# Altium integrated library Actel RTSX-S.IntLib: 22 symbols (part 1 of 3)
Pins are listed as number, name and electrical type; pins without a type are passive.

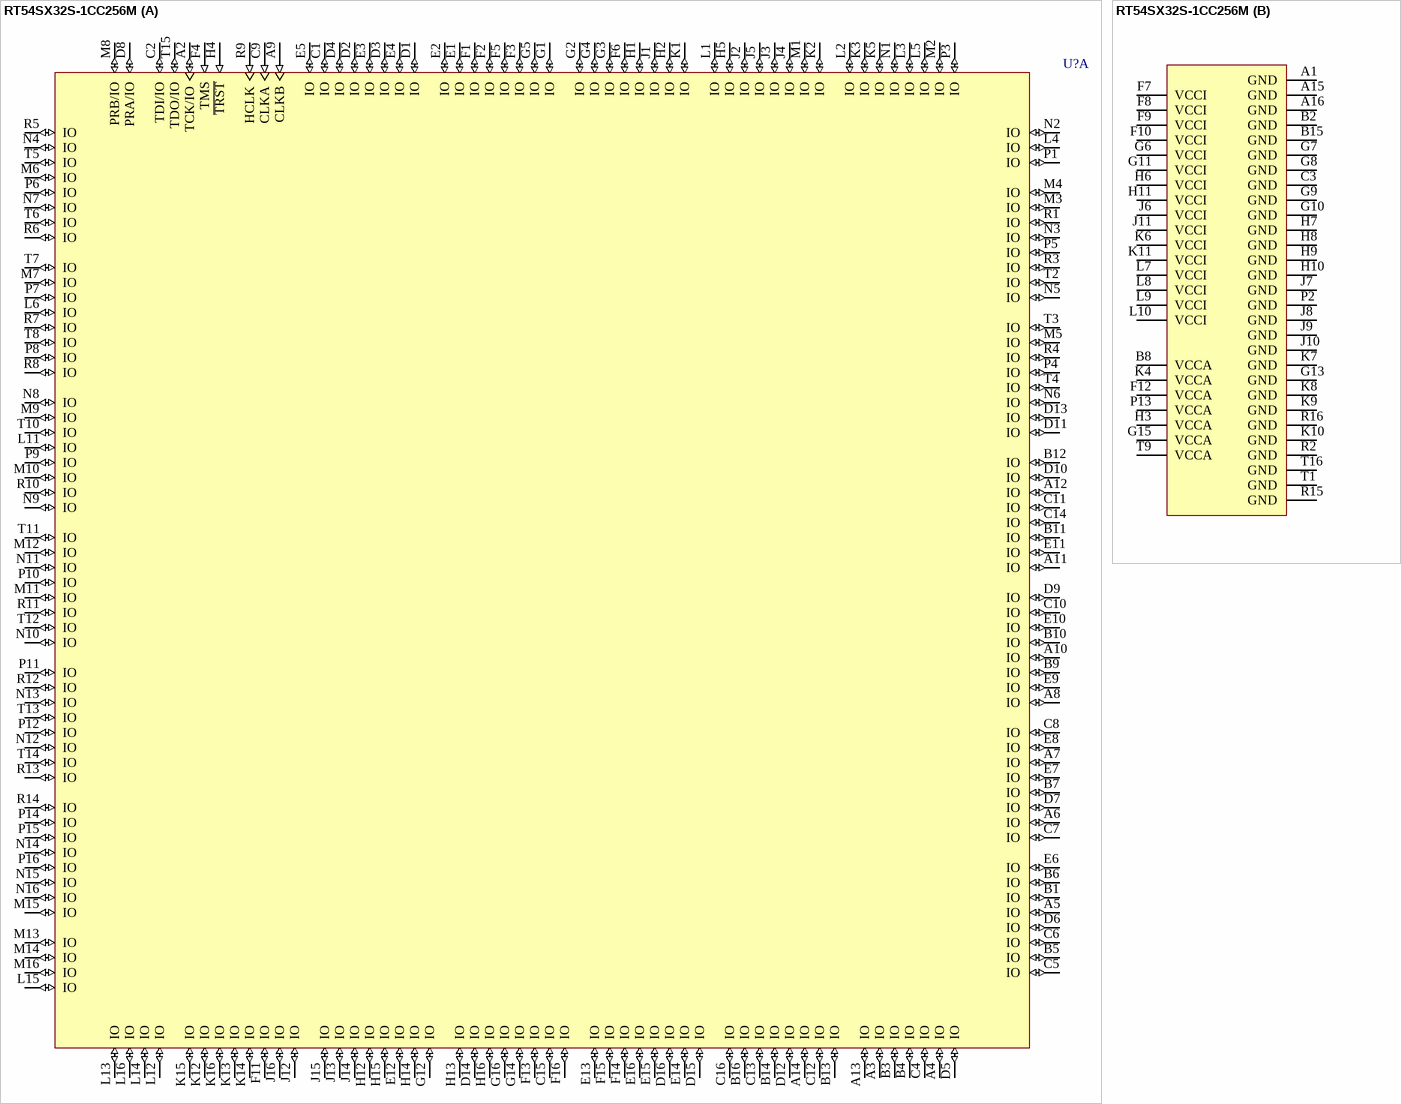
[diagram p0: symbol RT54SX32S-1CC256M]

## RT54SX32S-1CC256M
designator U?
RT54SX32S RadTolerant FPGA, 202 User IOs, 256-Pin CCLG, Speed Grade 1, Military Temperature; Component Availability: Discontinued; Published: 8-Jul-2005; LatestRevisionDate: 13-Apr-2006; LatestRevisionNote: IPC-7351 Footprint Added.; DatasheetVersion: v2.2, Nov-2004; PackageVersion: ver11.2, Nov-2009; PackageReference: CC256; Publisher: Altium Limited; PackageDescription: 256-Ball (Ceramic Chip Carrier Land Grid Substrate) Ball Grid Array 1 mm Pitch; Code_IPC: BGA100P16X16-256; ComponentLink1Description: RTSX-S RadTolerant Datasheet; ComponentLink1URL: http://www.actel.com/documents/RT54SXS_DS.pdf; ComponentLink2Description: Package Mechanical Drawings; ComponentLink2URL: http://www.actel.com/documents/PckgMechDrwngs.pdf; ComponentLink3Description: RTSX-S Discontinued Documents; ComponentLink3URL: http://www.actel.com/products/discontinued/default.aspx#rtsxs; ComponentLink4Description: Actel.com Home; ComponentLink4URL: http://www.actel.com/
footprint CC256 (BGA, 256-Leads, Body 17x17mm, Pitch 1mm)
part A pins: A2 TCK/IO (io), A3 IO (io), A4 IO (io), A5 IO (io), A6 IO (io), A7 IO (io), A8 IO (io), A9 CLKB (in), A10 IO (io), A11 IO (io), A12 IO (io), A13 IO (io), A14 IO (io), B1 IO (io), B3 IO (io), B4 IO (io), B5 IO (io), B6 IO (io), B7 IO (io), B9 IO (io), B10 IO (io), B11 IO (io), B12 IO (io), B13 IO (io), B14 IO (io), B16 IO (io), C1 IO (io), C2 TDI/IO (io), C4 IO (io), C5 IO (io), C6 IO (io), C7 IO (io), C8 IO (io), C9 CLKA (in), C10 IO (io), C11 IO (io), C12 IO (io), C13 IO (io), C14 IO (io), C15 IO (io), C16 IO (io), D1 IO (io), D2 IO (io), D3 IO (io), D4 IO (io), D5 IO (io), D6 IO (io), D7 IO (io), D8 PRA/IO (io), D9 IO (io), D10 IO (io), D11 IO (io), D12 IO (io), D13 IO (io), D14 IO (io), D15 IO (io), D16 IO (io), E1 IO (io), E2 IO (io), E3 IO (io), E4 IO (io), E5 IO (io), E6 IO (io), E7 IO (io), E8 IO (io), E9 IO (io), E10 IO (io), E11 IO (io), E12 IO (io), E13 IO (io), E14 IO (io), E15 IO (io), E16 IO (io), F1 IO (io), F2 IO (io), F3 IO (io), F4 TMS (in), F5 IO (io), F6 IO (io), F11 IO (io), F13 IO (io), F14 IO (io), F15 IO (io), F16 IO (io), G1 IO (io), G2 IO (io), G3 IO (io), G4 IO (io), G5 IO (io), G12 IO (io), G14 IO (io), G16 IO (io), H1 IO (io), H2 IO (io), H4 ~{TRST} (in), H5 IO (io), H12 IO (io), H13 IO (io), H14 IO (io), H15 IO (io), H16 IO (io), J1 IO (io), J2 IO (io), J3 IO (io), J4 IO (io), J5 IO (io), J12 IO (io), J13 IO (io), J14 IO (io), J15 IO (io), J16 IO (io), K1 IO (io), K2 IO (io), K3 IO (io), K5 IO (io), K12 IO (io), K13 IO (io), K14 IO (io), K15 IO (io), K16 IO (io), L1 IO (io), L2 IO (io), L3 IO (io), L4 IO (io), L5 IO (io), L6 IO (io), L11 IO (io), L12 IO (io), L13 IO (io), L14 IO (io), L15 IO (io), L16 IO (io), M1 IO (io), M2 IO (io), M3 IO (io), M4 IO (io), M5 IO (io), M6 IO (io), M7 IO (io), M8 PRB/IO (io), M9 IO (io), M10 IO (io), M11 IO (io), M12 IO (io), M13 IO (io), M14 IO (io), M15 IO (io), M16 IO (io), N1 IO (io), N2 IO (io), N3 IO (io), N4 IO (io), N5 IO (io), N6 IO (io), N7 IO (io), N8 IO (io), N9 IO (io), N10 IO (io), N11 IO (io), N12 IO (io), N13 IO (io), N14 IO (io), N15 IO (io), N16 IO (io), P1 IO (io), P3 IO (io), P4 IO (io), P5 IO (io), P6 IO (io), P7 IO (io), P8 IO (io), P9 IO (io), P10 IO (io), P11 IO (io), P12 IO (io), P14 IO (io), P15 IO (io), P16 IO (io), R1 IO (io), R3 IO (io), R4 IO (io), R5 IO (io), R6 IO (io), R7 IO (io), R8 IO (io), R9 HCLK (in), R10 IO (io), R11 IO (io), R12 IO (io), R13 IO (io), R14 IO (io), T2 IO (io), T3 IO (io), T4 IO (io), T5 IO (io), T6 IO (io), T7 IO (io), T8 IO (io), T10 IO (io), T11 IO (io), T12 IO (io), T13 IO (io), T14 IO (io), T15 TDO/IO (io)
part B pins: A1 GND (power), A15 GND (power), A16 GND (power), B2 GND (power), B8 VCCA (power), B15 GND (power), C3 GND (power), F7 VCCI (power), F8 VCCI (power), F9 VCCI (power), F10 VCCI (power), F12 VCCA (power), G6 VCCI (power), G7 GND (power), G8 GND (power), G9 GND (power), G10 GND (power), G11 VCCI (power), G13 GND (power), G15 VCCA (power), H3 VCCA (power), H6 VCCI (power), H7 GND (power), H8 GND (power), H9 GND (power), H10 GND (power), H11 VCCI (power), J6 VCCI (power), J7 GND (power), J8 GND (power), J9 GND (power), J10 GND (power), J11 VCCI (power), K4 VCCA (power), K6 VCCI (power), K7 GND (power), K8 GND (power), K9 GND (power), K10 GND (power), K11 VCCI (power), L7 VCCI (power), L8 VCCI (power), L9 VCCI (power), L10 VCCI (power), P2 GND (power), P13 VCCA (power), R2 GND (power), R15 GND (power), R16 GND (power), T1 GND (power), T9 VCCA (power), T16 GND (power)

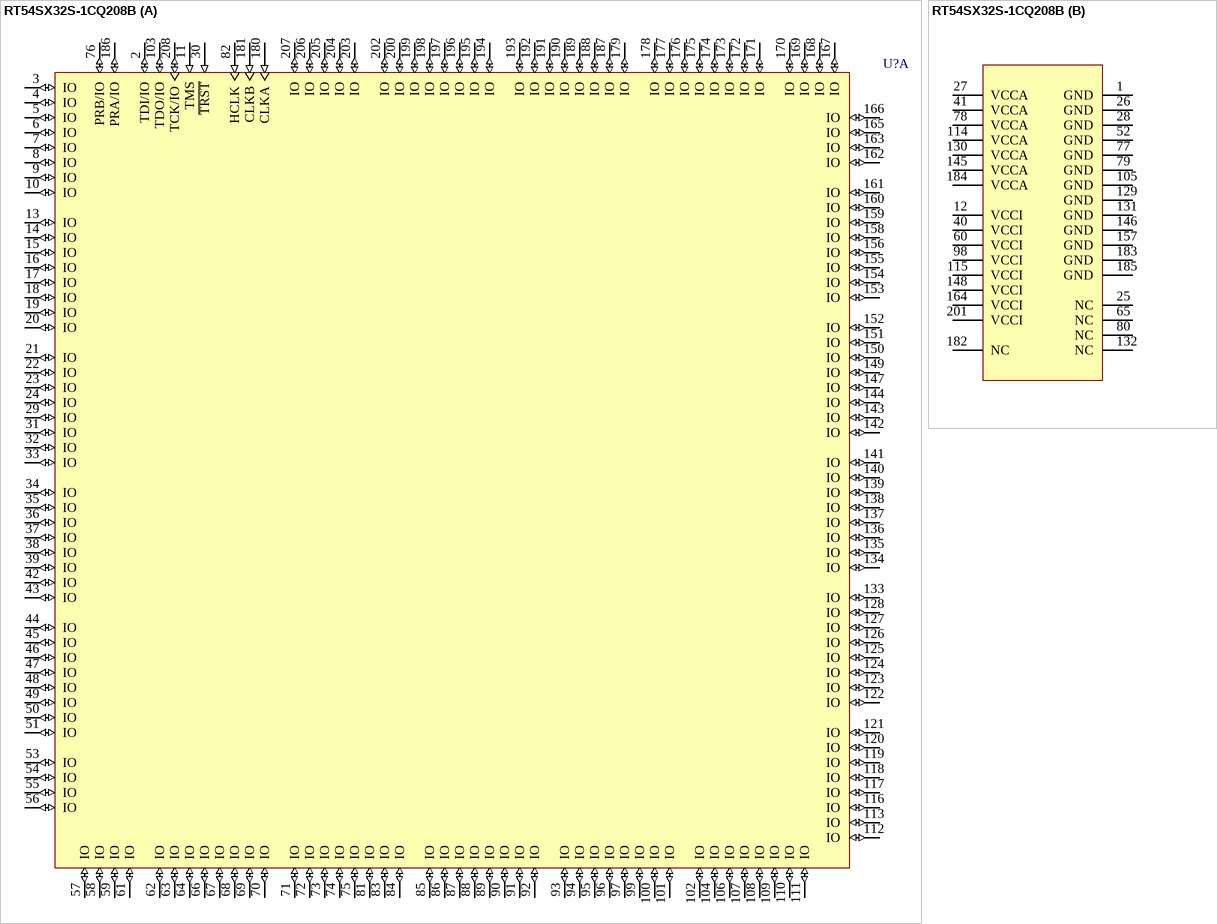
[diagram p1: symbol RT54SX32S-1CQ208B]

## RT54SX32S-1CQ208B
designator U?
RT54SX32S RadTolerant FPGA, 176 User IOs, 208-Pin CQFP, Speed Grade 1, MIL-STD-883 Class B; Component Availability: Discontinued; Published: 17-Sep-2003; LatestRevisionDate: 13-Apr-2006; LatestRevisionNote: IPC-7351 Footprint Added.; DatasheetVersion: v2.2, Nov-2004; PackageVersion: ver11.2, Nov-2009; PackageReference: CQ208; Publisher: Altium Limited; PackageDescription: 208-Pin Ceramic Quad Flat Pack (CQFP); ComponentLink1Description: RTSX-S RadTolerant Datasheet; ComponentLink1URL: http://www.actel.com/documents/RT54SXS_DS.pdf; ComponentLink2Description: Package Mechanical Drawings; ComponentLink2URL: http://www.actel.com/documents/PckgMechDrwngs.pdf; ComponentLink3Description: RTSX-S Discontinued Documents; ComponentLink3URL: http://www.actel.com/products/discontinued/default.aspx#rtsxs; ComponentLink4Description: Actel.com Home; ComponentLink4URL: http://www.actel.com/
footprint CQ208_N (CQFP, 208-Leads, Body 29x29mm; Pitch 0.5mm, Gullwing Leadform, IPC Medium Density)
footprint CQ208_L (CQFP, 208-Leads, Body 29x29mm; Pitch 0.5mm, Gullwing Leadform, IPC High Density)
footprint CQ208_M (CQFP, 208-Leads, Body 29x29mm; Pitch 0.5mm, Gullwing Leadform, IPC Low Density)
part A pins: 2 TDI/IO (io), 3 IO (io), 4 IO (io), 5 IO (io), 6 IO (io), 7 IO (io), 8 IO (io), 9 IO (io), 10 IO (io), 11 TMS (in), 13 IO (io), 14 IO (io), 15 IO (io), 16 IO (io), 17 IO (io), 18 IO (io), 19 IO (io), 20 IO (io), 21 IO (io), 22 IO (io), 23 IO (io), 24 IO (io), 29 IO (io), 30 ~{TRST} (in), 31 IO (io), 32 IO (io), 33 IO (io), 34 IO (io), 35 IO (io), 36 IO (io), 37 IO (io), 38 IO (io), 39 IO (io), 42 IO (io), 43 IO (io), 44 IO (io), 45 IO (io), 46 IO (io), 47 IO (io), 48 IO (io), 49 IO (io), 50 IO (io), 51 IO (io), 53 IO (io), 54 IO (io), 55 IO (io), 56 IO (io), 57 IO (io), 58 IO (io), 59 IO (io), 61 IO (io), 62 IO (io), 63 IO (io), 64 IO (io), 66 IO (io), 67 IO (io), 68 IO (io), 69 IO (io), 70 IO (io), 71 IO (io), 72 IO (io), 73 IO (io), 74 IO (io), 75 IO (io), 76 PRB/IO (io), 81 IO (io), 82 HCLK (in), 83 IO (io), 84 IO (io), 85 IO (io), 86 IO (io), 87 IO (io), 88 IO (io), 89 IO (io), 90 IO (io), 91 IO (io), 92 IO (io), 93 IO (io), 94 IO (io), 95 IO (io), 96 IO (io), 97 IO (io), 99 IO (io), 100 IO (io), 101 IO (io), 102 IO (io), 103 TDO/IO (io), 104 IO (io), 106 IO (io), 107 IO (io), 108 IO (io), 109 IO (io), 110 IO (io), 111 IO (io), 112 IO (io), 113 IO (io), 116 IO (io), 117 IO (io), 118 IO (io), 119 IO (io), 120 IO (io), 121 IO (io), 122 IO (io), 123 IO (io), 124 IO (io), 125 IO (io), 126 IO (io), 127 IO (io), 128 IO (io), 133 IO (io), 134 IO (io), 135 IO (io), 136 IO (io), 137 IO (io), 138 IO (io), 139 IO (io), 140 IO (io), 141 IO (io), 142 IO (io), 143 IO (io), 144 IO (io), 147 IO (io), 149 IO (io), 150 IO (io), 151 IO (io), 152 IO (io), 153 IO (io), 154 IO (io), 155 IO (io), 156 IO (io), 158 IO (io), 159 IO (io), 160 IO (io), 161 IO (io), 162 IO (io), 163 IO (io), 165 IO (io), 166 IO (io), 167 IO (io), 168 IO (io), 169 IO (io), 170 IO (io), 171 IO (io), 172 IO (io), 173 IO (io), 174 IO (io), 175 IO (io), 176 IO (io), 177 IO (io), 178 IO (io), 179 IO (io), 180 CLKA (in), 181 CLKB (in), 186 PRA/IO (io), 187 IO (io), 188 IO (io), 189 IO (io), 190 IO (io), 191 IO (io), 192 IO (io), 193 IO (io), 194 IO (io), 195 IO (io), 196 IO (io), 197 IO (io), 198 IO (io), 199 IO (io), 200 IO (io), 202 IO (io), 203 IO (io), 204 IO (io), 205 IO (io), 206 IO (io), 207 IO (io), 208 TCK/IO (io)
part B pins: 1 GND (power), 12 VCCI (power), 25 NC, 26 GND (power), 27 VCCA (power), 28 GND (power), 40 VCCI (power), 41 VCCA (power), 52 GND (power), 60 VCCI (power), 65 NC, 77 GND (power), 78 VCCA (power), 79 GND (power), 80 NC, 98 VCCI (power), 105 GND (power), 114 VCCA (power), 115 VCCI (power), 129 GND (power), 130 VCCA (power), 131 GND (power), 132 NC, 145 VCCA (power), 146 GND (power), 148 VCCI (power), 157 GND (power), 164 VCCI (power), 182 NC, 183 GND (power), 184 VCCA (power), 185 GND (power), 201 VCCI (power)

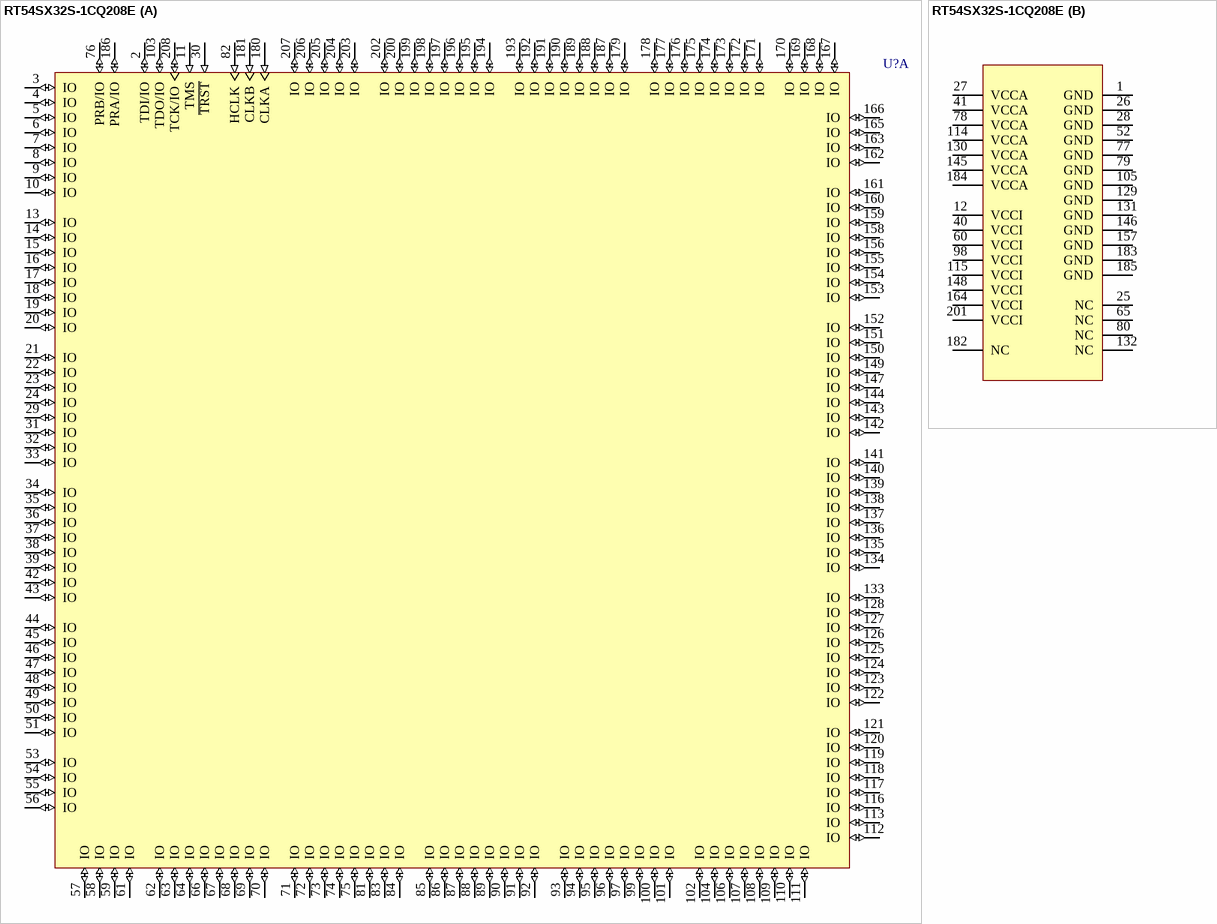
[diagram p2: symbol RT54SX32S-1CQ208E]

## RT54SX32S-1CQ208E
designator U?
RT54SX32S RadTolerant FPGA, 176 User IOs, 208-Pin CQFP, Speed Grade 1, E-Flow (Space Level Flow); Component Availability: Discontinued; Published: 17-Sep-2003; LatestRevisionDate: 13-Apr-2006; LatestRevisionNote: IPC-7351 Footprint Added.; DatasheetVersion: v2.2, Nov-2004; PackageVersion: ver11.2, Nov-2009; PackageReference: CQ208; Publisher: Altium Limited; PackageDescription: 208-Pin Ceramic Quad Flat Pack (CQFP); ComponentLink1Description: RTSX-S RadTolerant Datasheet; ComponentLink1URL: http://www.actel.com/documents/RT54SXS_DS.pdf; ComponentLink2Description: Package Mechanical Drawings; ComponentLink2URL: http://www.actel.com/documents/PckgMechDrwngs.pdf; ComponentLink3Description: RTSX-S Discontinued Documents; ComponentLink3URL: http://www.actel.com/products/discontinued/default.aspx#rtsxs; ComponentLink4Description: Actel.com Home; ComponentLink4URL: http://www.actel.com/
footprint CQ208_N (CQFP, 208-Leads, Body 29x29mm; Pitch 0.5mm, Gullwing Leadform, IPC Medium Density)
footprint CQ208_L (CQFP, 208-Leads, Body 29x29mm; Pitch 0.5mm, Gullwing Leadform, IPC High Density)
footprint CQ208_M (CQFP, 208-Leads, Body 29x29mm; Pitch 0.5mm, Gullwing Leadform, IPC Low Density)
part A pins: 2 TDI/IO (io), 3 IO (io), 4 IO (io), 5 IO (io), 6 IO (io), 7 IO (io), 8 IO (io), 9 IO (io), 10 IO (io), 11 TMS (in), 13 IO (io), 14 IO (io), 15 IO (io), 16 IO (io), 17 IO (io), 18 IO (io), 19 IO (io), 20 IO (io), 21 IO (io), 22 IO (io), 23 IO (io), 24 IO (io), 29 IO (io), 30 ~{TRST} (in), 31 IO (io), 32 IO (io), 33 IO (io), 34 IO (io), 35 IO (io), 36 IO (io), 37 IO (io), 38 IO (io), 39 IO (io), 42 IO (io), 43 IO (io), 44 IO (io), 45 IO (io), 46 IO (io), 47 IO (io), 48 IO (io), 49 IO (io), 50 IO (io), 51 IO (io), 53 IO (io), 54 IO (io), 55 IO (io), 56 IO (io), 57 IO (io), 58 IO (io), 59 IO (io), 61 IO (io), 62 IO (io), 63 IO (io), 64 IO (io), 66 IO (io), 67 IO (io), 68 IO (io), 69 IO (io), 70 IO (io), 71 IO (io), 72 IO (io), 73 IO (io), 74 IO (io), 75 IO (io), 76 PRB/IO (io), 81 IO (io), 82 HCLK (in), 83 IO (io), 84 IO (io), 85 IO (io), 86 IO (io), 87 IO (io), 88 IO (io), 89 IO (io), 90 IO (io), 91 IO (io), 92 IO (io), 93 IO (io), 94 IO (io), 95 IO (io), 96 IO (io), 97 IO (io), 99 IO (io), 100 IO (io), 101 IO (io), 102 IO (io), 103 TDO/IO (io), 104 IO (io), 106 IO (io), 107 IO (io), 108 IO (io), 109 IO (io), 110 IO (io), 111 IO (io), 112 IO (io), 113 IO (io), 116 IO (io), 117 IO (io), 118 IO (io), 119 IO (io), 120 IO (io), 121 IO (io), 122 IO (io), 123 IO (io), 124 IO (io), 125 IO (io), 126 IO (io), 127 IO (io), 128 IO (io), 133 IO (io), 134 IO (io), 135 IO (io), 136 IO (io), 137 IO (io), 138 IO (io), 139 IO (io), 140 IO (io), 141 IO (io), 142 IO (io), 143 IO (io), 144 IO (io), 147 IO (io), 149 IO (io), 150 IO (io), 151 IO (io), 152 IO (io), 153 IO (io), 154 IO (io), 155 IO (io), 156 IO (io), 158 IO (io), 159 IO (io), 160 IO (io), 161 IO (io), 162 IO (io), 163 IO (io), 165 IO (io), 166 IO (io), 167 IO (io), 168 IO (io), 169 IO (io), 170 IO (io), 171 IO (io), 172 IO (io), 173 IO (io), 174 IO (io), 175 IO (io), 176 IO (io), 177 IO (io), 178 IO (io), 179 IO (io), 180 CLKA (in), 181 CLKB (in), 186 PRA/IO (io), 187 IO (io), 188 IO (io), 189 IO (io), 190 IO (io), 191 IO (io), 192 IO (io), 193 IO (io), 194 IO (io), 195 IO (io), 196 IO (io), 197 IO (io), 198 IO (io), 199 IO (io), 200 IO (io), 202 IO (io), 203 IO (io), 204 IO (io), 205 IO (io), 206 IO (io), 207 IO (io), 208 TCK/IO (io)
part B pins: 1 GND (power), 12 VCCI (power), 25 NC, 26 GND (power), 27 VCCA (power), 28 GND (power), 40 VCCI (power), 41 VCCA (power), 52 GND (power), 60 VCCI (power), 65 NC, 77 GND (power), 78 VCCA (power), 79 GND (power), 80 NC, 98 VCCI (power), 105 GND (power), 114 VCCA (power), 115 VCCI (power), 129 GND (power), 130 VCCA (power), 131 GND (power), 132 NC, 145 VCCA (power), 146 GND (power), 148 VCCI (power), 157 GND (power), 164 VCCI (power), 182 NC, 183 GND (power), 184 VCCA (power), 185 GND (power), 201 VCCI (power)

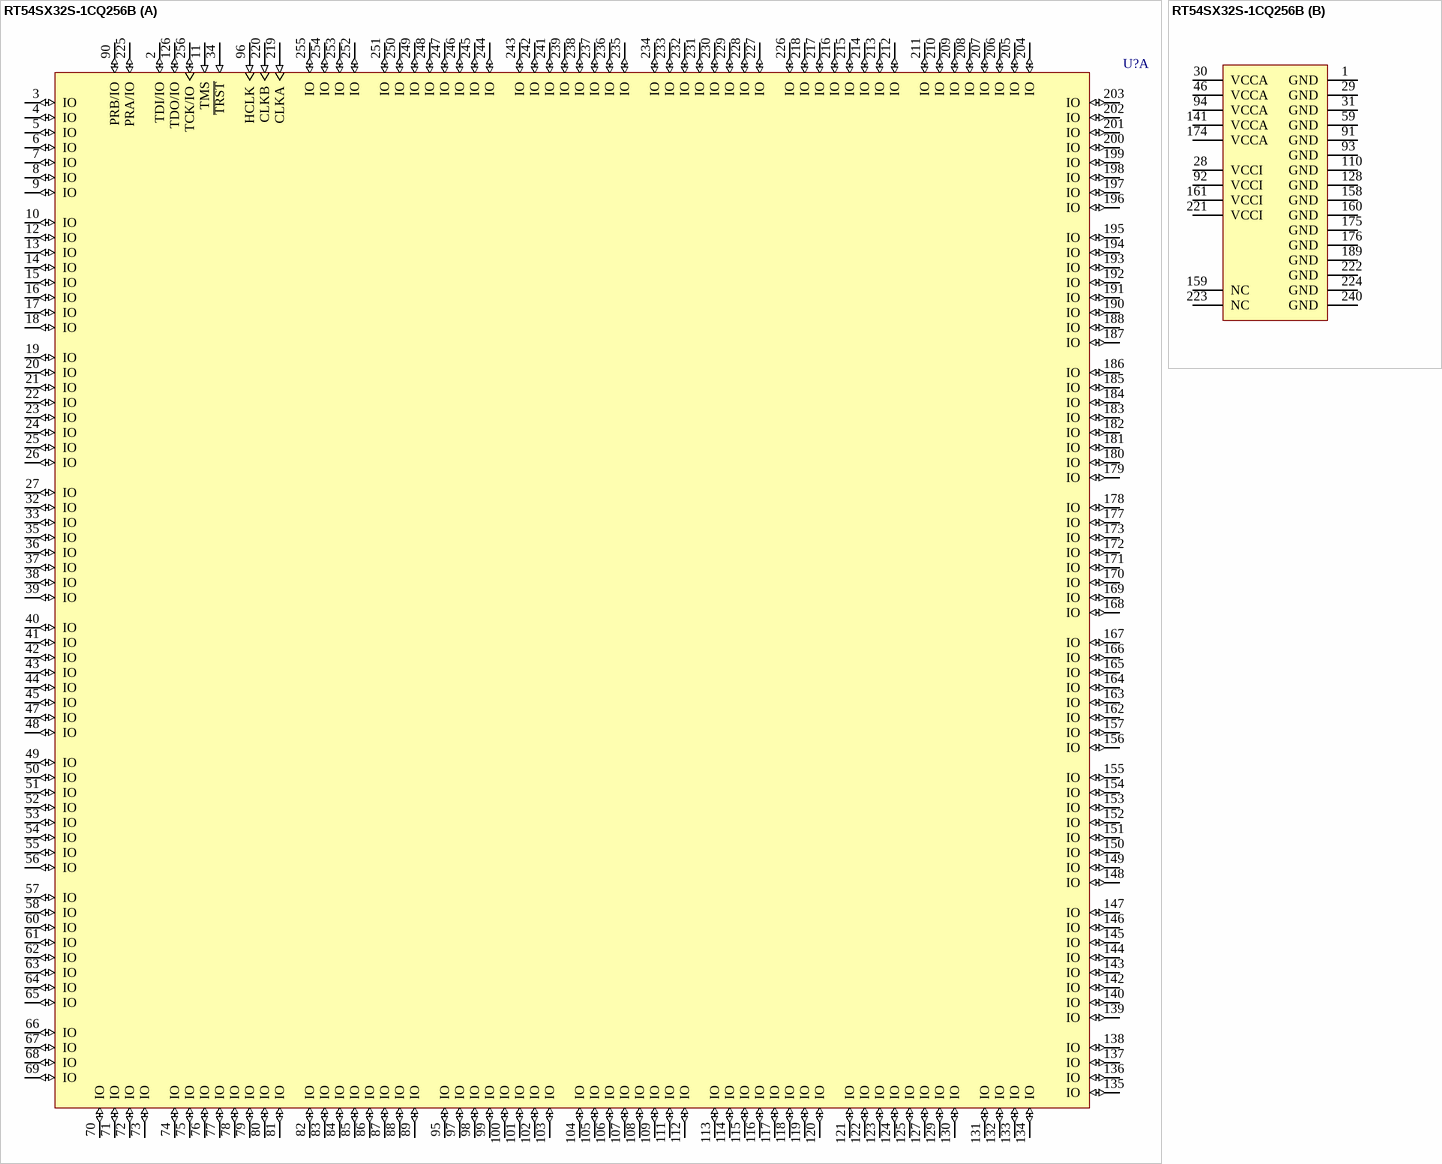
[diagram p3: symbol RT54SX32S-1CQ256B]

## RT54SX32S-1CQ256B
designator U?
RT54SX32S RadTolerant FPGA, 227 User IOs, 256-Pin CQFP, Speed Grade 1, MIL-STD-883 Class B; Component Availability: Discontinued; Published: 17-Sep-2003; LatestRevisionDate: 13-Apr-2006; LatestRevisionNote: IPC-7351 Footprint Added.; DatasheetVersion: v2.2, Nov-2004; PackageVersion: ver11.2, Nov-2009; PackageReference: CQ256; Publisher: Altium Limited; PackageDescription: 256-Pin Ceramic Quad Flat Pack (CQFP); Code_JEDEC: MO-134-AB; ComponentLink1Description: RTSX-S RadTolerant Datasheet; ComponentLink1URL: http://www.actel.com/documents/RT54SXS_DS.pdf; ComponentLink2Description: Package Mechanical Drawings; ComponentLink2URL: http://www.actel.com/documents/PckgMechDrwngs.pdf; ComponentLink3Description: RTSX-S Discontinued Documents; ComponentLink3URL: http://www.actel.com/products/discontinued/default.aspx#rtsxs; ComponentLink4Description: Actel.com Home; ComponentLink4URL: http://www.actel.com/
footprint CQ256_N (CQFP, 256-Leads, Body 36x36mm; Pitch 0.5mm, Gullwing Leadform, IPC Medium Density)
footprint CQ256_L (CQFP, 256-Leads, Body 36x36mm; Pitch 0.5mm, Gullwing Leadform, IPC High Density)
footprint CQ256_M (CQFP, 256-Leads, Body 36x36mm; Pitch 0.5mm, Gullwing Leadform, IPC Low Density)
part A pins: 2 TDI/IO (io), 3 IO (io), 4 IO (io), 5 IO (io), 6 IO (io), 7 IO (io), 8 IO (io), 9 IO (io), 10 IO (io), 11 TMS (in), 12 IO (io), 13 IO (io), 14 IO (io), 15 IO (io), 16 IO (io), 17 IO (io), 18 IO (io), 19 IO (io), 20 IO (io), 21 IO (io), 22 IO (io), 23 IO (io), 24 IO (io), 25 IO (io), 26 IO (io), 27 IO (io), 32 IO (io), 33 IO (io), 34 ~{TRST} (in), 35 IO (io), 36 IO (io), 37 IO (io), 38 IO (io), 39 IO (io), 40 IO (io), 41 IO (io), 42 IO (io), 43 IO (io), 44 IO (io), 45 IO (io), 47 IO (io), 48 IO (io), 49 IO (io), 50 IO (io), 51 IO (io), 52 IO (io), 53 IO (io), 54 IO (io), 55 IO (io), 56 IO (io), 57 IO (io), 58 IO (io), 60 IO (io), 61 IO (io), 62 IO (io), 63 IO (io), 64 IO (io), 65 IO (io), 66 IO (io), 67 IO (io), 68 IO (io), 69 IO (io), 70 IO (io), 71 IO (io), 72 IO (io), 73 IO (io), 74 IO (io), 75 IO (io), 76 IO (io), 77 IO (io), 78 IO (io), 79 IO (io), 80 IO (io), 81 IO (io), 82 IO (io), 83 IO (io), 84 IO (io), 85 IO (io), 86 IO (io), 87 IO (io), 88 IO (io), 89 IO (io), 90 PRB/IO (io), 95 IO (io), 96 HCLK (in), 97 IO (io), 98 IO (io), 99 IO (io), 100 IO (io), 101 IO (io), 102 IO (io), 103 IO (io), 104 IO (io), 105 IO (io), 106 IO (io), 107 IO (io), 108 IO (io), 109 IO (io), 111 IO (io), 112 IO (io), 113 IO (io), 114 IO (io), 115 IO (io), 116 IO (io), 117 IO (io), 118 IO (io), 119 IO (io), 120 IO (io), 121 IO (io), 122 IO (io), 123 IO (io), 124 IO (io), 125 IO (io), 126 TDO/IO (io), 127 IO (io), 129 IO (io), 130 IO (io), 131 IO (io), 132 IO (io), 133 IO (io), 134 IO (io), 135 IO (io), 136 IO (io), 137 IO (io), 138 IO (io), 139 IO (io), 140 IO (io), 142 IO (io), 143 IO (io), 144 IO (io), 145 IO (io), 146 IO (io), 147 IO (io), 148 IO (io), 149 IO (io), 150 IO (io), 151 IO (io), 152 IO (io), 153 IO (io), 154 IO (io), 155 IO (io), 156 IO (io), 157 IO (io), 162 IO (io), 163 IO (io), 164 IO (io), 165 IO (io), 166 IO (io), 167 IO (io), 168 IO (io), 169 IO (io), 170 IO (io), 171 IO (io), 172 IO (io), 173 IO (io), 177 IO (io), 178 IO (io), 179 IO (io), 180 IO (io), 181 IO (io), 182 IO (io), 183 IO (io), 184 IO (io), 185 IO (io), 186 IO (io), 187 IO (io), 188 IO (io), 190 IO (io), 191 IO (io), 192 IO (io), 193 IO (io), 194 IO (io), 195 IO (io), 196 IO (io), 197 IO (io), 198 IO (io), 199 IO (io), 200 IO (io), 201 IO (io), 202 IO (io), 203 IO (io), 204 IO (io), 205 IO (io), 206 IO (io), 207 IO (io), 208 IO (io), 209 IO (io), 210 IO (io), 211 IO (io), 212 IO (io), 213 IO (io), 214 IO (io), 215 IO (io), 216 IO (io), 217 IO (io), 218 IO (io), 219 CLKA (in), 220 CLKB (in), 225 PRA/IO (io), 226 IO (io), 227 IO (io), 228 IO (io), 229 IO (io), 230 IO (io), 231 IO (io), 232 IO (io), 233 IO (io), 234 IO (io), 235 IO (io), 236 IO (io), 237 IO (io), 238 IO (io), 239 IO (io), 241 IO (io), 242 IO (io), 243 IO (io), 244 IO (io), 245 IO (io), 246 IO (io), 247 IO (io), 248 IO (io), 249 IO (io), 250 IO (io), 251 IO (io), 252 IO (io), 253 IO (io), 254 IO (io), 255 IO (io), 256 TCK/IO (io)
part B pins: 1 GND (power), 28 VCCI (power), 29 GND (power), 30 VCCA (power), 31 GND (power), 46 VCCA (power), 59 GND (power), 91 GND (power), 92 VCCI (power), 93 GND (power), 94 VCCA (power), 110 GND (power), 128 GND (power), 141 VCCA (power), 158 GND (power), 159 NC, 160 GND (power), 161 VCCI (power), 174 VCCA (power), 175 GND (power), 176 GND (power), 189 GND (power), 221 VCCI (power), 222 GND (power), 223 NC, 224 GND (power), 240 GND (power)

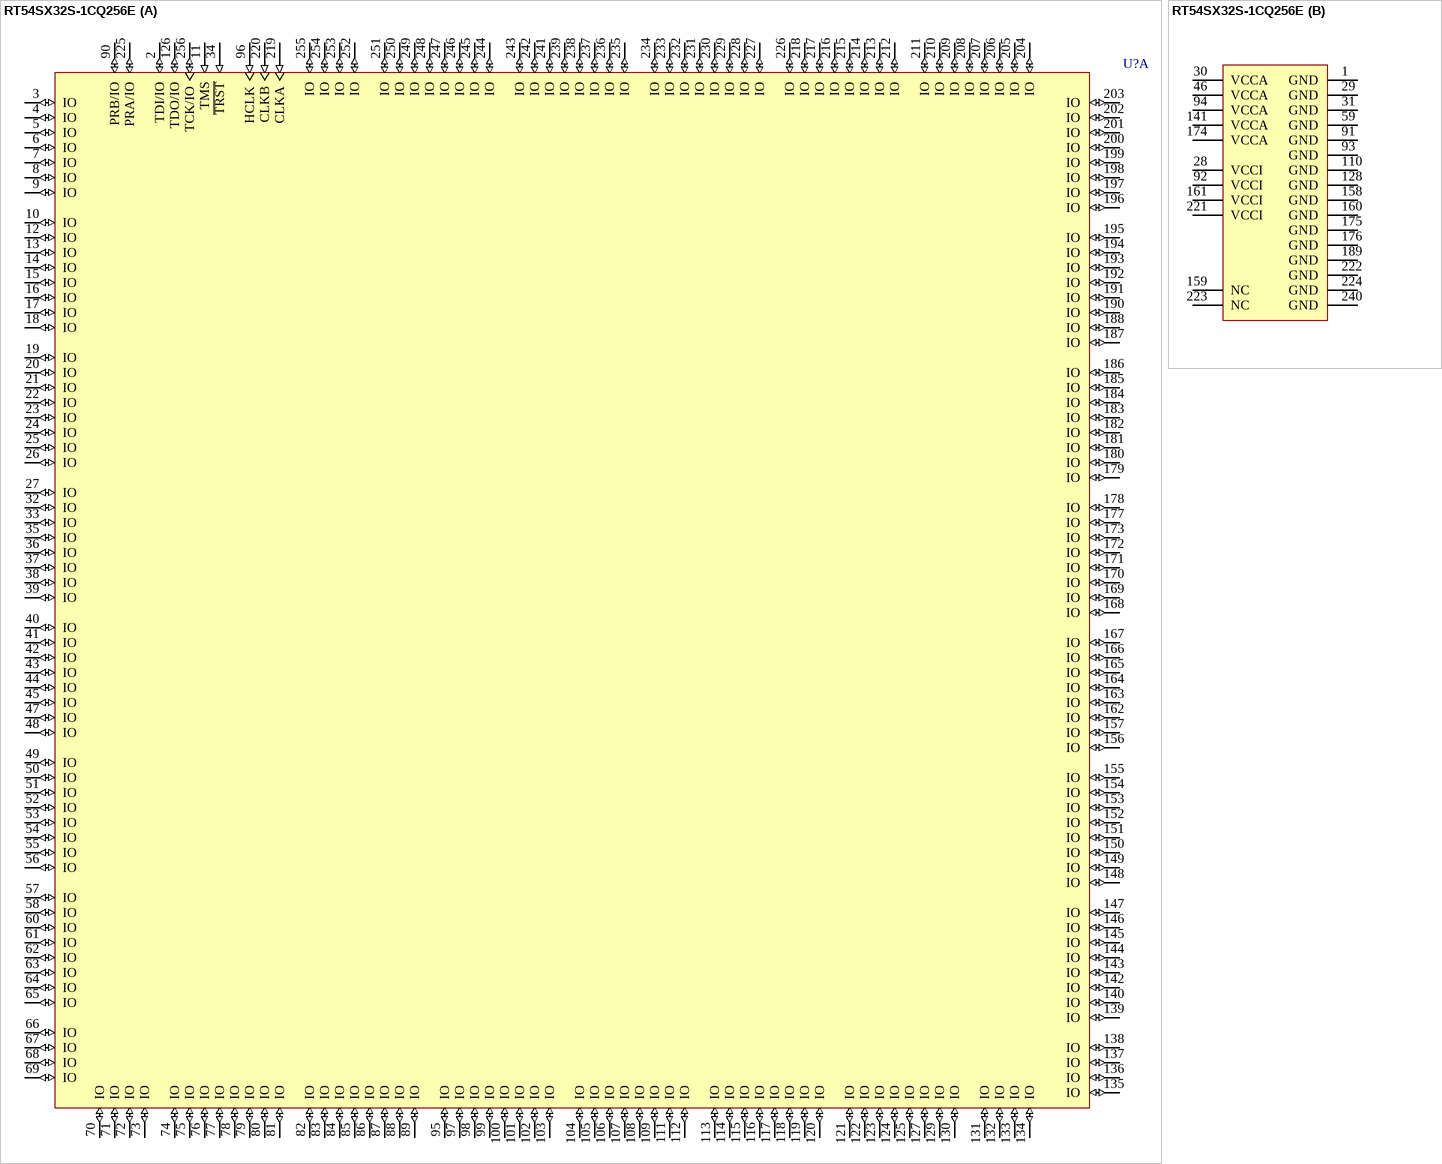
[diagram p4: symbol RT54SX32S-1CQ256E]

## RT54SX32S-1CQ256E
designator U?
RT54SX32S RadTolerant FPGA, 227 User IOs, 256-Pin CQFP, Speed Grade 1, E-Flow (Space Level Flow); Component Availability: Discontinued; Published: 17-Sep-2003; LatestRevisionDate: 13-Apr-2006; LatestRevisionNote: IPC-7351 Footprint Added.; DatasheetVersion: v2.2, Nov-2004; PackageVersion: ver11.2, Nov-2009; PackageReference: CQ256; Publisher: Altium Limited; PackageDescription: 256-Pin Ceramic Quad Flat Pack (CQFP); Code_JEDEC: MO-134-AB; ComponentLink1Description: RTSX-S RadTolerant Datasheet; ComponentLink1URL: http://www.actel.com/documents/RT54SXS_DS.pdf; ComponentLink2Description: Package Mechanical Drawings; ComponentLink2URL: http://www.actel.com/documents/PckgMechDrwngs.pdf; ComponentLink3Description: RTSX-S Discontinued Documents; ComponentLink3URL: http://www.actel.com/products/discontinued/default.aspx#rtsxs; ComponentLink4Description: Actel.com Home; ComponentLink4URL: http://www.actel.com/
footprint CQ256_N (CQFP, 256-Leads, Body 36x36mm; Pitch 0.5mm, Gullwing Leadform, IPC Medium Density)
footprint CQ256_L (CQFP, 256-Leads, Body 36x36mm; Pitch 0.5mm, Gullwing Leadform, IPC High Density)
footprint CQ256_M (CQFP, 256-Leads, Body 36x36mm; Pitch 0.5mm, Gullwing Leadform, IPC Low Density)
part A pins: 2 TDI/IO (io), 3 IO (io), 4 IO (io), 5 IO (io), 6 IO (io), 7 IO (io), 8 IO (io), 9 IO (io), 10 IO (io), 11 TMS (in), 12 IO (io), 13 IO (io), 14 IO (io), 15 IO (io), 16 IO (io), 17 IO (io), 18 IO (io), 19 IO (io), 20 IO (io), 21 IO (io), 22 IO (io), 23 IO (io), 24 IO (io), 25 IO (io), 26 IO (io), 27 IO (io), 32 IO (io), 33 IO (io), 34 ~{TRST} (in), 35 IO (io), 36 IO (io), 37 IO (io), 38 IO (io), 39 IO (io), 40 IO (io), 41 IO (io), 42 IO (io), 43 IO (io), 44 IO (io), 45 IO (io), 47 IO (io), 48 IO (io), 49 IO (io), 50 IO (io), 51 IO (io), 52 IO (io), 53 IO (io), 54 IO (io), 55 IO (io), 56 IO (io), 57 IO (io), 58 IO (io), 60 IO (io), 61 IO (io), 62 IO (io), 63 IO (io), 64 IO (io), 65 IO (io), 66 IO (io), 67 IO (io), 68 IO (io), 69 IO (io), 70 IO (io), 71 IO (io), 72 IO (io), 73 IO (io), 74 IO (io), 75 IO (io), 76 IO (io), 77 IO (io), 78 IO (io), 79 IO (io), 80 IO (io), 81 IO (io), 82 IO (io), 83 IO (io), 84 IO (io), 85 IO (io), 86 IO (io), 87 IO (io), 88 IO (io), 89 IO (io), 90 PRB/IO (io), 95 IO (io), 96 HCLK (in), 97 IO (io), 98 IO (io), 99 IO (io), 100 IO (io), 101 IO (io), 102 IO (io), 103 IO (io), 104 IO (io), 105 IO (io), 106 IO (io), 107 IO (io), 108 IO (io), 109 IO (io), 111 IO (io), 112 IO (io), 113 IO (io), 114 IO (io), 115 IO (io), 116 IO (io), 117 IO (io), 118 IO (io), 119 IO (io), 120 IO (io), 121 IO (io), 122 IO (io), 123 IO (io), 124 IO (io), 125 IO (io), 126 TDO/IO (io), 127 IO (io), 129 IO (io), 130 IO (io), 131 IO (io), 132 IO (io), 133 IO (io), 134 IO (io), 135 IO (io), 136 IO (io), 137 IO (io), 138 IO (io), 139 IO (io), 140 IO (io), 142 IO (io), 143 IO (io), 144 IO (io), 145 IO (io), 146 IO (io), 147 IO (io), 148 IO (io), 149 IO (io), 150 IO (io), 151 IO (io), 152 IO (io), 153 IO (io), 154 IO (io), 155 IO (io), 156 IO (io), 157 IO (io), 162 IO (io), 163 IO (io), 164 IO (io), 165 IO (io), 166 IO (io), 167 IO (io), 168 IO (io), 169 IO (io), 170 IO (io), 171 IO (io), 172 IO (io), 173 IO (io), 177 IO (io), 178 IO (io), 179 IO (io), 180 IO (io), 181 IO (io), 182 IO (io), 183 IO (io), 184 IO (io), 185 IO (io), 186 IO (io), 187 IO (io), 188 IO (io), 190 IO (io), 191 IO (io), 192 IO (io), 193 IO (io), 194 IO (io), 195 IO (io), 196 IO (io), 197 IO (io), 198 IO (io), 199 IO (io), 200 IO (io), 201 IO (io), 202 IO (io), 203 IO (io), 204 IO (io), 205 IO (io), 206 IO (io), 207 IO (io), 208 IO (io), 209 IO (io), 210 IO (io), 211 IO (io), 212 IO (io), 213 IO (io), 214 IO (io), 215 IO (io), 216 IO (io), 217 IO (io), 218 IO (io), 219 CLKA (in), 220 CLKB (in), 225 PRA/IO (io), 226 IO (io), 227 IO (io), 228 IO (io), 229 IO (io), 230 IO (io), 231 IO (io), 232 IO (io), 233 IO (io), 234 IO (io), 235 IO (io), 236 IO (io), 237 IO (io), 238 IO (io), 239 IO (io), 241 IO (io), 242 IO (io), 243 IO (io), 244 IO (io), 245 IO (io), 246 IO (io), 247 IO (io), 248 IO (io), 249 IO (io), 250 IO (io), 251 IO (io), 252 IO (io), 253 IO (io), 254 IO (io), 255 IO (io), 256 TCK/IO (io)
part B pins: 1 GND (power), 28 VCCI (power), 29 GND (power), 30 VCCA (power), 31 GND (power), 46 VCCA (power), 59 GND (power), 91 GND (power), 92 VCCI (power), 93 GND (power), 94 VCCA (power), 110 GND (power), 128 GND (power), 141 VCCA (power), 158 GND (power), 159 NC, 160 GND (power), 161 VCCI (power), 174 VCCA (power), 175 GND (power), 176 GND (power), 189 GND (power), 221 VCCI (power), 222 GND (power), 223 NC, 224 GND (power), 240 GND (power)

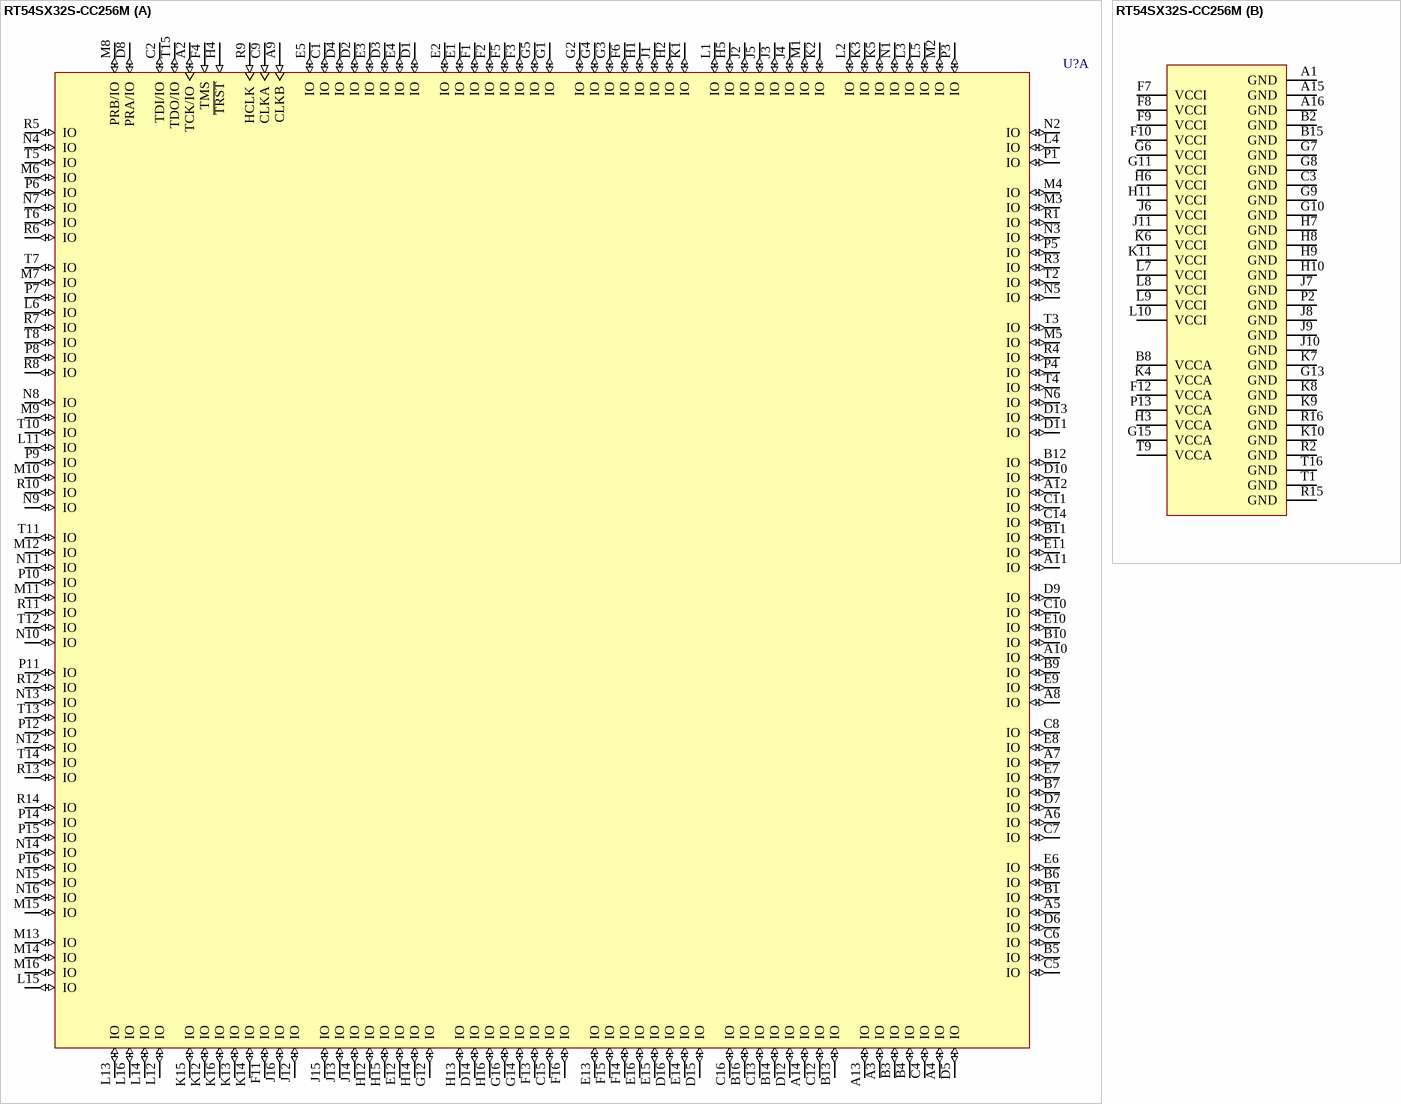
[diagram p5: symbol RT54SX32S-CC256M]

## RT54SX32S-CC256M
designator U?
RT54SX32S RadTolerant FPGA, 202 User IOs, 256-Pin CCLG, Speed Grade Standard, Military Temperature; Component Availability: Discontinued; Published: 8-Jul-2005; LatestRevisionDate: 13-Apr-2006; LatestRevisionNote: IPC-7351 Footprint Added.; DatasheetVersion: v2.2, Nov-2004; PackageVersion: ver11.2, Nov-2009; PackageReference: CC256; Publisher: Altium Limited; PackageDescription: 256-Ball (Ceramic Chip Carrier Land Grid Substrate) Ball Grid Array 1 mm Pitch; Code_IPC: BGA100P16X16-256; ComponentLink1Description: RTSX-S RadTolerant Datasheet; ComponentLink1URL: http://www.actel.com/documents/RT54SXS_DS.pdf; ComponentLink2Description: Package Mechanical Drawings; ComponentLink2URL: http://www.actel.com/documents/PckgMechDrwngs.pdf; ComponentLink3Description: RTSX-S Discontinued Documents; ComponentLink3URL: http://www.actel.com/products/discontinued/default.aspx#rtsxs; ComponentLink4Description: Actel.com Home; ComponentLink4URL: http://www.actel.com/
footprint CC256 (BGA, 256-Leads, Body 17x17mm, Pitch 1mm)
part A pins: A2 TCK/IO (io), A3 IO (io), A4 IO (io), A5 IO (io), A6 IO (io), A7 IO (io), A8 IO (io), A9 CLKB (in), A10 IO (io), A11 IO (io), A12 IO (io), A13 IO (io), A14 IO (io), B1 IO (io), B3 IO (io), B4 IO (io), B5 IO (io), B6 IO (io), B7 IO (io), B9 IO (io), B10 IO (io), B11 IO (io), B12 IO (io), B13 IO (io), B14 IO (io), B16 IO (io), C1 IO (io), C2 TDI/IO (io), C4 IO (io), C5 IO (io), C6 IO (io), C7 IO (io), C8 IO (io), C9 CLKA (in), C10 IO (io), C11 IO (io), C12 IO (io), C13 IO (io), C14 IO (io), C15 IO (io), C16 IO (io), D1 IO (io), D2 IO (io), D3 IO (io), D4 IO (io), D5 IO (io), D6 IO (io), D7 IO (io), D8 PRA/IO (io), D9 IO (io), D10 IO (io), D11 IO (io), D12 IO (io), D13 IO (io), D14 IO (io), D15 IO (io), D16 IO (io), E1 IO (io), E2 IO (io), E3 IO (io), E4 IO (io), E5 IO (io), E6 IO (io), E7 IO (io), E8 IO (io), E9 IO (io), E10 IO (io), E11 IO (io), E12 IO (io), E13 IO (io), E14 IO (io), E15 IO (io), E16 IO (io), F1 IO (io), F2 IO (io), F3 IO (io), F4 TMS (in), F5 IO (io), F6 IO (io), F11 IO (io), F13 IO (io), F14 IO (io), F15 IO (io), F16 IO (io), G1 IO (io), G2 IO (io), G3 IO (io), G4 IO (io), G5 IO (io), G12 IO (io), G14 IO (io), G16 IO (io), H1 IO (io), H2 IO (io), H4 ~{TRST} (in), H5 IO (io), H12 IO (io), H13 IO (io), H14 IO (io), H15 IO (io), H16 IO (io), J1 IO (io), J2 IO (io), J3 IO (io), J4 IO (io), J5 IO (io), J12 IO (io), J13 IO (io), J14 IO (io), J15 IO (io), J16 IO (io), K1 IO (io), K2 IO (io), K3 IO (io), K5 IO (io), K12 IO (io), K13 IO (io), K14 IO (io), K15 IO (io), K16 IO (io), L1 IO (io), L2 IO (io), L3 IO (io), L4 IO (io), L5 IO (io), L6 IO (io), L11 IO (io), L12 IO (io), L13 IO (io), L14 IO (io), L15 IO (io), L16 IO (io), M1 IO (io), M2 IO (io), M3 IO (io), M4 IO (io), M5 IO (io), M6 IO (io), M7 IO (io), M8 PRB/IO (io), M9 IO (io), M10 IO (io), M11 IO (io), M12 IO (io), M13 IO (io), M14 IO (io), M15 IO (io), M16 IO (io), N1 IO (io), N2 IO (io), N3 IO (io), N4 IO (io), N5 IO (io), N6 IO (io), N7 IO (io), N8 IO (io), N9 IO (io), N10 IO (io), N11 IO (io), N12 IO (io), N13 IO (io), N14 IO (io), N15 IO (io), N16 IO (io), P1 IO (io), P3 IO (io), P4 IO (io), P5 IO (io), P6 IO (io), P7 IO (io), P8 IO (io), P9 IO (io), P10 IO (io), P11 IO (io), P12 IO (io), P14 IO (io), P15 IO (io), P16 IO (io), R1 IO (io), R3 IO (io), R4 IO (io), R5 IO (io), R6 IO (io), R7 IO (io), R8 IO (io), R9 HCLK (in), R10 IO (io), R11 IO (io), R12 IO (io), R13 IO (io), R14 IO (io), T2 IO (io), T3 IO (io), T4 IO (io), T5 IO (io), T6 IO (io), T7 IO (io), T8 IO (io), T10 IO (io), T11 IO (io), T12 IO (io), T13 IO (io), T14 IO (io), T15 TDO/IO (io)
part B pins: A1 GND (power), A15 GND (power), A16 GND (power), B2 GND (power), B8 VCCA (power), B15 GND (power), C3 GND (power), F7 VCCI (power), F8 VCCI (power), F9 VCCI (power), F10 VCCI (power), F12 VCCA (power), G6 VCCI (power), G7 GND (power), G8 GND (power), G9 GND (power), G10 GND (power), G11 VCCI (power), G13 GND (power), G15 VCCA (power), H3 VCCA (power), H6 VCCI (power), H7 GND (power), H8 GND (power), H9 GND (power), H10 GND (power), H11 VCCI (power), J6 VCCI (power), J7 GND (power), J8 GND (power), J9 GND (power), J10 GND (power), J11 VCCI (power), K4 VCCA (power), K6 VCCI (power), K7 GND (power), K8 GND (power), K9 GND (power), K10 GND (power), K11 VCCI (power), L7 VCCI (power), L8 VCCI (power), L9 VCCI (power), L10 VCCI (power), P2 GND (power), P13 VCCA (power), R2 GND (power), R15 GND (power), R16 GND (power), T1 GND (power), T9 VCCA (power), T16 GND (power)

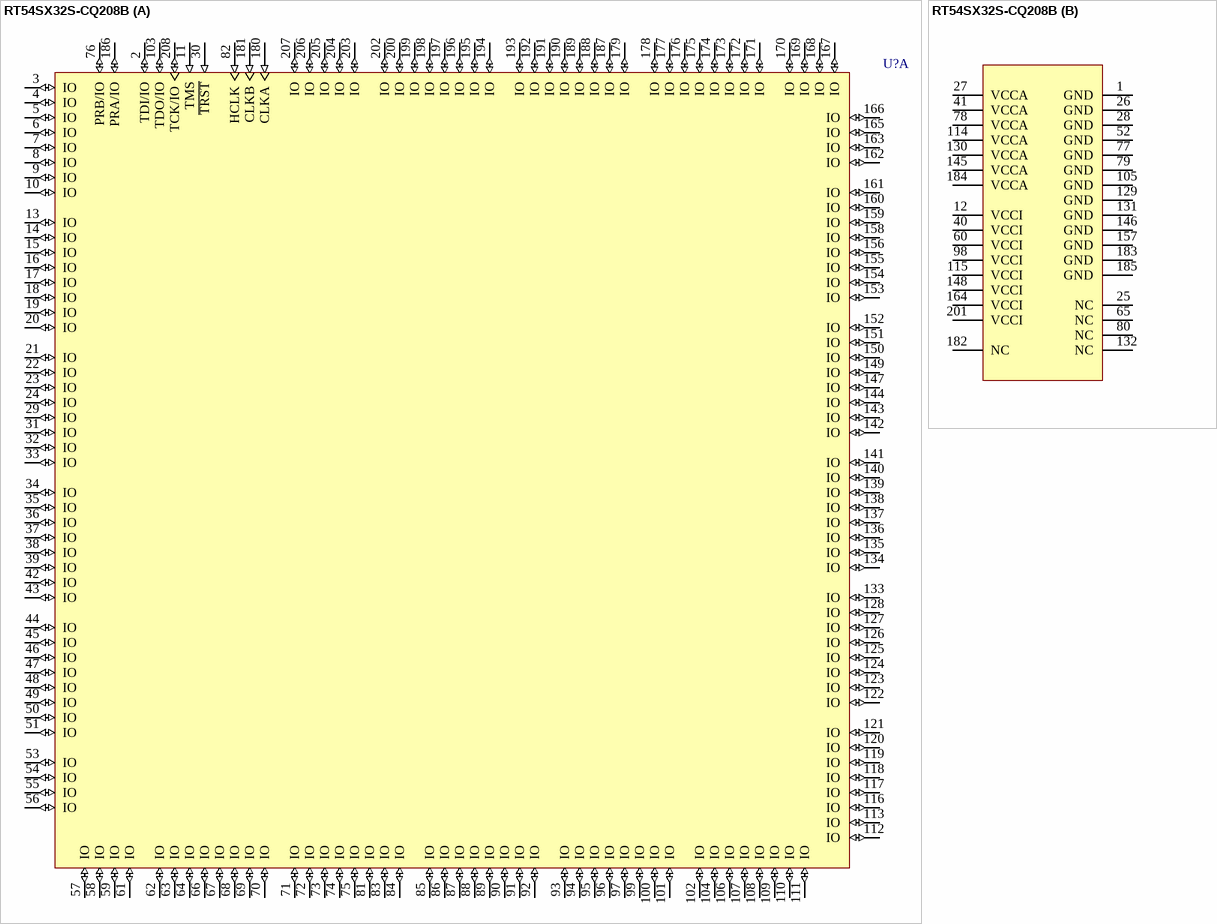
[diagram p6: symbol RT54SX32S-CQ208B]

## RT54SX32S-CQ208B
designator U?
RT54SX32S RadTolerant FPGA, 176 User IOs, 208-Pin CQFP, Speed Grade Standard, MIL-STD-883 Class B; Component Availability: Discontinued; Published: 17-Sep-2003; LatestRevisionDate: 13-Apr-2006; LatestRevisionNote: IPC-7351 Footprint Added.; DatasheetVersion: v2.2, Nov-2004; PackageVersion: ver11.2, Nov-2009; PackageReference: CQ208; Publisher: Altium Limited; PackageDescription: 208-Pin Ceramic Quad Flat Pack (CQFP); ComponentLink1Description: RTSX-S RadTolerant Datasheet; ComponentLink1URL: http://www.actel.com/documents/RT54SXS_DS.pdf; ComponentLink2Description: Package Mechanical Drawings; ComponentLink2URL: http://www.actel.com/documents/PckgMechDrwngs.pdf; ComponentLink3Description: RTSX-S Discontinued Documents; ComponentLink3URL: http://www.actel.com/products/discontinued/default.aspx#rtsxs; ComponentLink4Description: Actel.com Home; ComponentLink4URL: http://www.actel.com/
footprint CQ208_N (CQFP, 208-Leads, Body 29x29mm; Pitch 0.5mm, Gullwing Leadform, IPC Medium Density)
footprint CQ208_L (CQFP, 208-Leads, Body 29x29mm; Pitch 0.5mm, Gullwing Leadform, IPC High Density)
footprint CQ208_M (CQFP, 208-Leads, Body 29x29mm; Pitch 0.5mm, Gullwing Leadform, IPC Low Density)
part A pins: 2 TDI/IO (io), 3 IO (io), 4 IO (io), 5 IO (io), 6 IO (io), 7 IO (io), 8 IO (io), 9 IO (io), 10 IO (io), 11 TMS (in), 13 IO (io), 14 IO (io), 15 IO (io), 16 IO (io), 17 IO (io), 18 IO (io), 19 IO (io), 20 IO (io), 21 IO (io), 22 IO (io), 23 IO (io), 24 IO (io), 29 IO (io), 30 ~{TRST} (in), 31 IO (io), 32 IO (io), 33 IO (io), 34 IO (io), 35 IO (io), 36 IO (io), 37 IO (io), 38 IO (io), 39 IO (io), 42 IO (io), 43 IO (io), 44 IO (io), 45 IO (io), 46 IO (io), 47 IO (io), 48 IO (io), 49 IO (io), 50 IO (io), 51 IO (io), 53 IO (io), 54 IO (io), 55 IO (io), 56 IO (io), 57 IO (io), 58 IO (io), 59 IO (io), 61 IO (io), 62 IO (io), 63 IO (io), 64 IO (io), 66 IO (io), 67 IO (io), 68 IO (io), 69 IO (io), 70 IO (io), 71 IO (io), 72 IO (io), 73 IO (io), 74 IO (io), 75 IO (io), 76 PRB/IO (io), 81 IO (io), 82 HCLK (in), 83 IO (io), 84 IO (io), 85 IO (io), 86 IO (io), 87 IO (io), 88 IO (io), 89 IO (io), 90 IO (io), 91 IO (io), 92 IO (io), 93 IO (io), 94 IO (io), 95 IO (io), 96 IO (io), 97 IO (io), 99 IO (io), 100 IO (io), 101 IO (io), 102 IO (io), 103 TDO/IO (io), 104 IO (io), 106 IO (io), 107 IO (io), 108 IO (io), 109 IO (io), 110 IO (io), 111 IO (io), 112 IO (io), 113 IO (io), 116 IO (io), 117 IO (io), 118 IO (io), 119 IO (io), 120 IO (io), 121 IO (io), 122 IO (io), 123 IO (io), 124 IO (io), 125 IO (io), 126 IO (io), 127 IO (io), 128 IO (io), 133 IO (io), 134 IO (io), 135 IO (io), 136 IO (io), 137 IO (io), 138 IO (io), 139 IO (io), 140 IO (io), 141 IO (io), 142 IO (io), 143 IO (io), 144 IO (io), 147 IO (io), 149 IO (io), 150 IO (io), 151 IO (io), 152 IO (io), 153 IO (io), 154 IO (io), 155 IO (io), 156 IO (io), 158 IO (io), 159 IO (io), 160 IO (io), 161 IO (io), 162 IO (io), 163 IO (io), 165 IO (io), 166 IO (io), 167 IO (io), 168 IO (io), 169 IO (io), 170 IO (io), 171 IO (io), 172 IO (io), 173 IO (io), 174 IO (io), 175 IO (io), 176 IO (io), 177 IO (io), 178 IO (io), 179 IO (io), 180 CLKA (in), 181 CLKB (in), 186 PRA/IO (io), 187 IO (io), 188 IO (io), 189 IO (io), 190 IO (io), 191 IO (io), 192 IO (io), 193 IO (io), 194 IO (io), 195 IO (io), 196 IO (io), 197 IO (io), 198 IO (io), 199 IO (io), 200 IO (io), 202 IO (io), 203 IO (io), 204 IO (io), 205 IO (io), 206 IO (io), 207 IO (io), 208 TCK/IO (io)
part B pins: 1 GND (power), 12 VCCI (power), 25 NC, 26 GND (power), 27 VCCA (power), 28 GND (power), 40 VCCI (power), 41 VCCA (power), 52 GND (power), 60 VCCI (power), 65 NC, 77 GND (power), 78 VCCA (power), 79 GND (power), 80 NC, 98 VCCI (power), 105 GND (power), 114 VCCA (power), 115 VCCI (power), 129 GND (power), 130 VCCA (power), 131 GND (power), 132 NC, 145 VCCA (power), 146 GND (power), 148 VCCI (power), 157 GND (power), 164 VCCI (power), 182 NC, 183 GND (power), 184 VCCA (power), 185 GND (power), 201 VCCI (power)

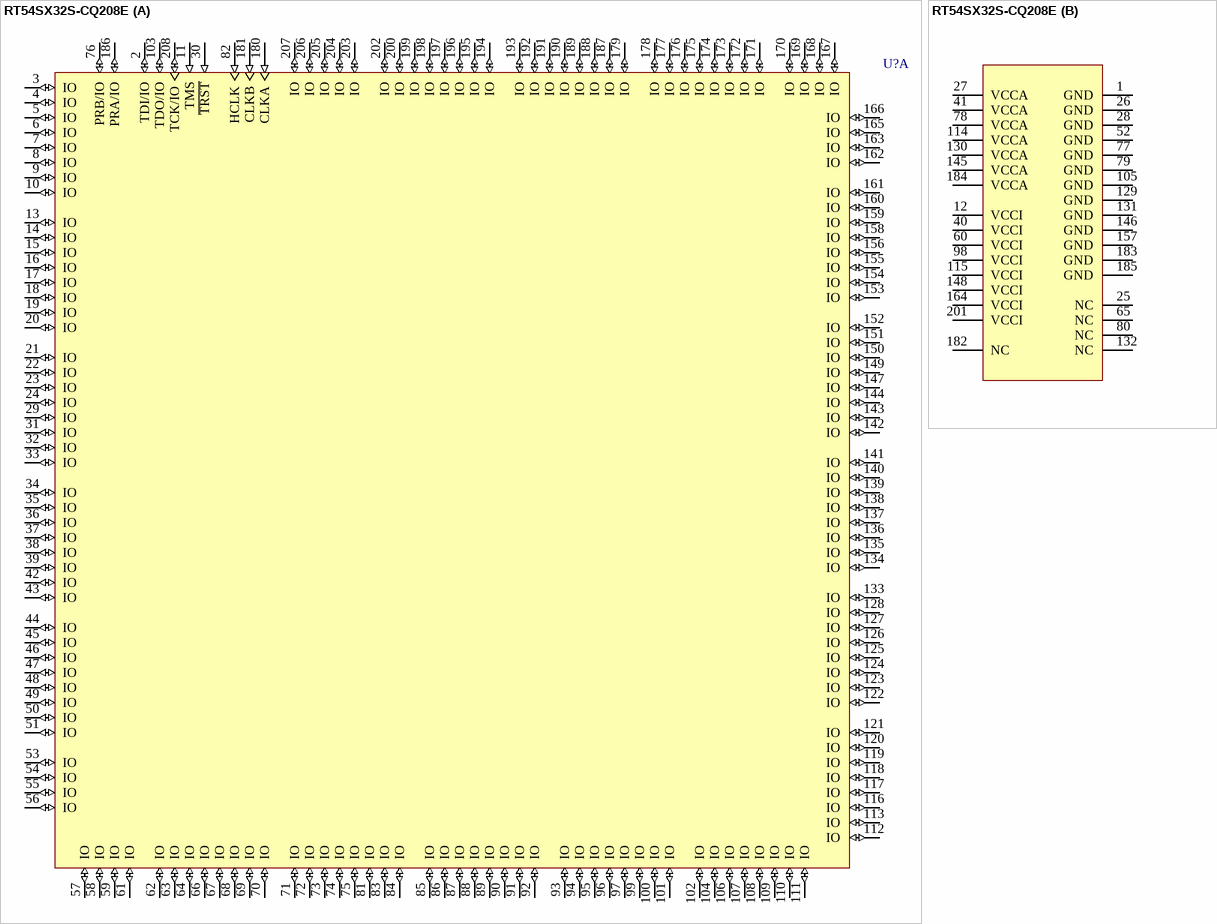
[diagram p7: symbol RT54SX32S-CQ208E]

## RT54SX32S-CQ208E
designator U?
RT54SX32S RadTolerant FPGA, 176 User IOs, 208-Pin CQFP, Speed Grade Standard, E-Flow (Space Level Flow); Component Availability: Discontinued; Published: 17-Sep-2003; LatestRevisionDate: 13-Apr-2006; LatestRevisionNote: IPC-7351 Footprint Added.; DatasheetVersion: v2.2, Nov-2004; PackageVersion: ver11.2, Nov-2009; PackageReference: CQ208; Publisher: Altium Limited; PackageDescription: 208-Pin Ceramic Quad Flat Pack (CQFP); ComponentLink1Description: RTSX-S RadTolerant Datasheet; ComponentLink1URL: http://www.actel.com/documents/RT54SXS_DS.pdf; ComponentLink2Description: Package Mechanical Drawings; ComponentLink2URL: http://www.actel.com/documents/PckgMechDrwngs.pdf; ComponentLink3Description: RTSX-S Discontinued Documents; ComponentLink3URL: http://www.actel.com/products/discontinued/default.aspx#rtsxs; ComponentLink4Description: Actel.com Home; ComponentLink4URL: http://www.actel.com/
footprint CQ208_N (CQFP, 208-Leads, Body 29x29mm; Pitch 0.5mm, Gullwing Leadform, IPC Medium Density)
footprint CQ208_L (CQFP, 208-Leads, Body 29x29mm; Pitch 0.5mm, Gullwing Leadform, IPC High Density)
footprint CQ208_M (CQFP, 208-Leads, Body 29x29mm; Pitch 0.5mm, Gullwing Leadform, IPC Low Density)
part A pins: 2 TDI/IO (io), 3 IO (io), 4 IO (io), 5 IO (io), 6 IO (io), 7 IO (io), 8 IO (io), 9 IO (io), 10 IO (io), 11 TMS (in), 13 IO (io), 14 IO (io), 15 IO (io), 16 IO (io), 17 IO (io), 18 IO (io), 19 IO (io), 20 IO (io), 21 IO (io), 22 IO (io), 23 IO (io), 24 IO (io), 29 IO (io), 30 ~{TRST} (in), 31 IO (io), 32 IO (io), 33 IO (io), 34 IO (io), 35 IO (io), 36 IO (io), 37 IO (io), 38 IO (io), 39 IO (io), 42 IO (io), 43 IO (io), 44 IO (io), 45 IO (io), 46 IO (io), 47 IO (io), 48 IO (io), 49 IO (io), 50 IO (io), 51 IO (io), 53 IO (io), 54 IO (io), 55 IO (io), 56 IO (io), 57 IO (io), 58 IO (io), 59 IO (io), 61 IO (io), 62 IO (io), 63 IO (io), 64 IO (io), 66 IO (io), 67 IO (io), 68 IO (io), 69 IO (io), 70 IO (io), 71 IO (io), 72 IO (io), 73 IO (io), 74 IO (io), 75 IO (io), 76 PRB/IO (io), 81 IO (io), 82 HCLK (in), 83 IO (io), 84 IO (io), 85 IO (io), 86 IO (io), 87 IO (io), 88 IO (io), 89 IO (io), 90 IO (io), 91 IO (io), 92 IO (io), 93 IO (io), 94 IO (io), 95 IO (io), 96 IO (io), 97 IO (io), 99 IO (io), 100 IO (io), 101 IO (io), 102 IO (io), 103 TDO/IO (io), 104 IO (io), 106 IO (io), 107 IO (io), 108 IO (io), 109 IO (io), 110 IO (io), 111 IO (io), 112 IO (io), 113 IO (io), 116 IO (io), 117 IO (io), 118 IO (io), 119 IO (io), 120 IO (io), 121 IO (io), 122 IO (io), 123 IO (io), 124 IO (io), 125 IO (io), 126 IO (io), 127 IO (io), 128 IO (io), 133 IO (io), 134 IO (io), 135 IO (io), 136 IO (io), 137 IO (io), 138 IO (io), 139 IO (io), 140 IO (io), 141 IO (io), 142 IO (io), 143 IO (io), 144 IO (io), 147 IO (io), 149 IO (io), 150 IO (io), 151 IO (io), 152 IO (io), 153 IO (io), 154 IO (io), 155 IO (io), 156 IO (io), 158 IO (io), 159 IO (io), 160 IO (io), 161 IO (io), 162 IO (io), 163 IO (io), 165 IO (io), 166 IO (io), 167 IO (io), 168 IO (io), 169 IO (io), 170 IO (io), 171 IO (io), 172 IO (io), 173 IO (io), 174 IO (io), 175 IO (io), 176 IO (io), 177 IO (io), 178 IO (io), 179 IO (io), 180 CLKA (in), 181 CLKB (in), 186 PRA/IO (io), 187 IO (io), 188 IO (io), 189 IO (io), 190 IO (io), 191 IO (io), 192 IO (io), 193 IO (io), 194 IO (io), 195 IO (io), 196 IO (io), 197 IO (io), 198 IO (io), 199 IO (io), 200 IO (io), 202 IO (io), 203 IO (io), 204 IO (io), 205 IO (io), 206 IO (io), 207 IO (io), 208 TCK/IO (io)
part B pins: 1 GND (power), 12 VCCI (power), 25 NC, 26 GND (power), 27 VCCA (power), 28 GND (power), 40 VCCI (power), 41 VCCA (power), 52 GND (power), 60 VCCI (power), 65 NC, 77 GND (power), 78 VCCA (power), 79 GND (power), 80 NC, 98 VCCI (power), 105 GND (power), 114 VCCA (power), 115 VCCI (power), 129 GND (power), 130 VCCA (power), 131 GND (power), 132 NC, 145 VCCA (power), 146 GND (power), 148 VCCI (power), 157 GND (power), 164 VCCI (power), 182 NC, 183 GND (power), 184 VCCA (power), 185 GND (power), 201 VCCI (power)

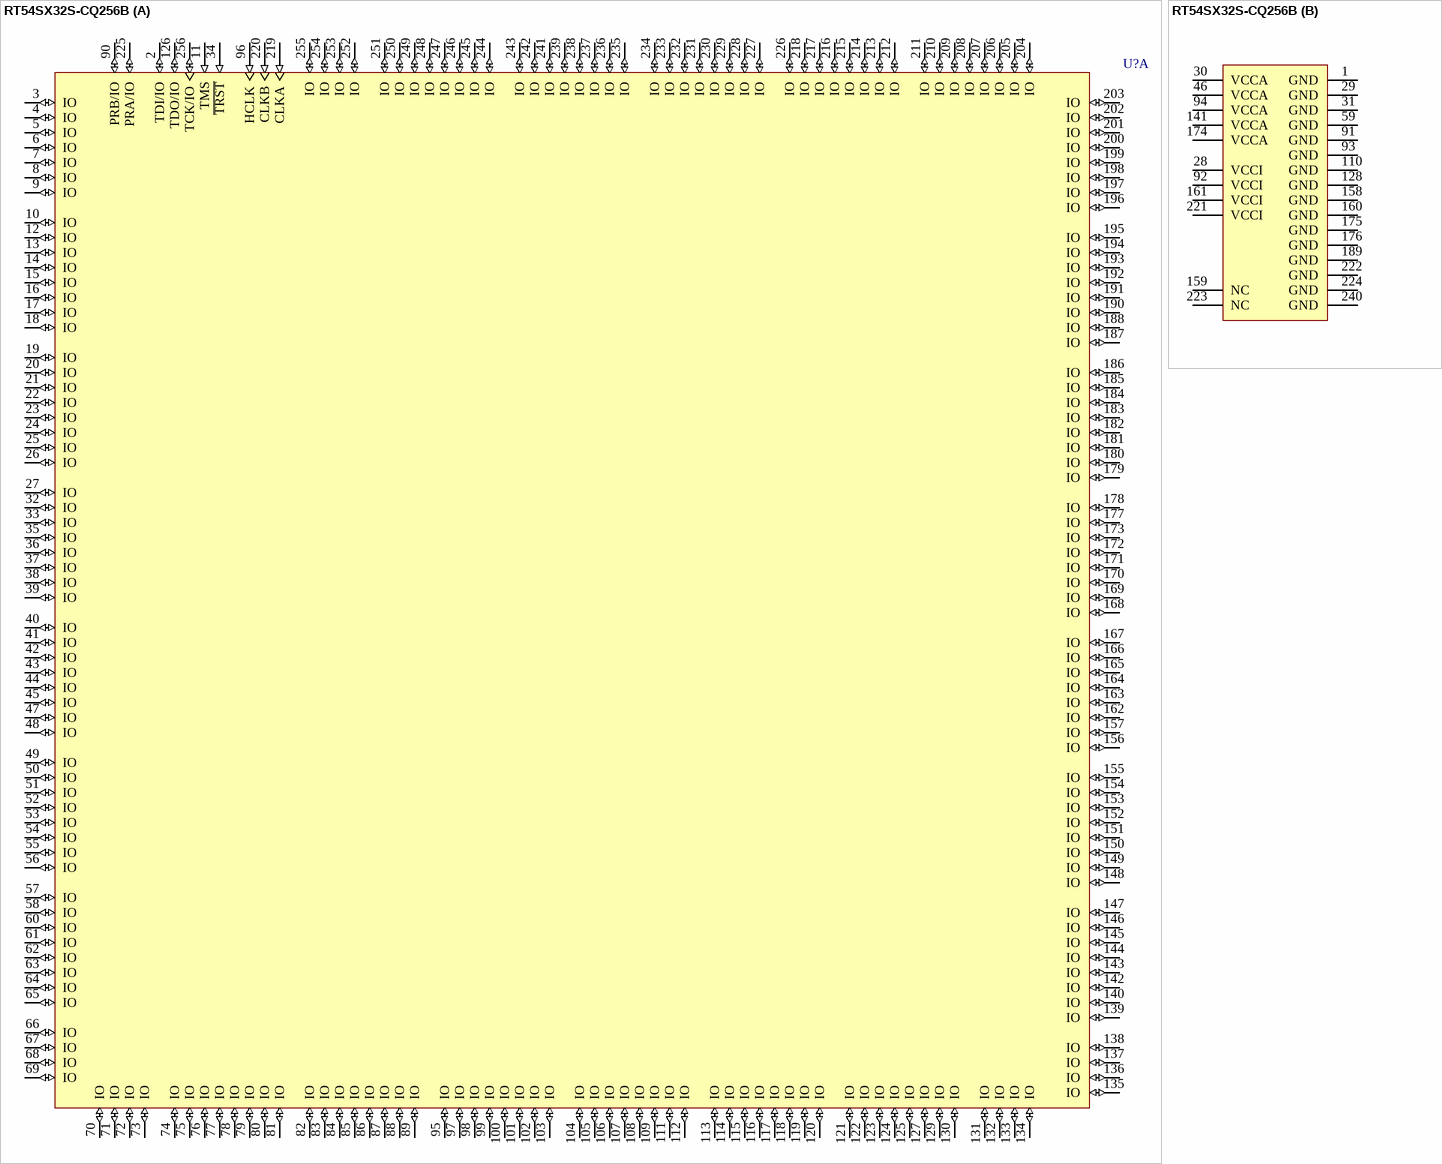
[diagram p8: symbol RT54SX32S-CQ256B]

## RT54SX32S-CQ256B
designator U?
RT54SX32S RadTolerant FPGA, 227 User IOs, 256-Pin CQFP, Speed Grade Standard, MIL-STD-883 Class B; Component Availability: Discontinued; Published: 17-Sep-2003; LatestRevisionDate: 13-Apr-2006; LatestRevisionNote: IPC-7351 Footprint Added.; DatasheetVersion: v2.2, Nov-2004; PackageVersion: ver11.2, Nov-2009; PackageReference: CQ256; Publisher: Altium Limited; PackageDescription: 256-Pin Ceramic Quad Flat Pack (CQFP); Code_JEDEC: MO-134-AB; ComponentLink1Description: RTSX-S RadTolerant Datasheet; ComponentLink1URL: http://www.actel.com/documents/RT54SXS_DS.pdf; ComponentLink2Description: Package Mechanical Drawings; ComponentLink2URL: http://www.actel.com/documents/PckgMechDrwngs.pdf; ComponentLink3Description: RTSX-S Discontinued Documents; ComponentLink3URL: http://www.actel.com/products/discontinued/default.aspx#rtsxs; ComponentLink4Description: Actel.com Home; ComponentLink4URL: http://www.actel.com/
footprint CQ256_N (CQFP, 256-Leads, Body 36x36mm; Pitch 0.5mm, Gullwing Leadform, IPC Medium Density)
footprint CQ256_L (CQFP, 256-Leads, Body 36x36mm; Pitch 0.5mm, Gullwing Leadform, IPC High Density)
footprint CQ256_M (CQFP, 256-Leads, Body 36x36mm; Pitch 0.5mm, Gullwing Leadform, IPC Low Density)
part A pins: 2 TDI/IO (io), 3 IO (io), 4 IO (io), 5 IO (io), 6 IO (io), 7 IO (io), 8 IO (io), 9 IO (io), 10 IO (io), 11 TMS (in), 12 IO (io), 13 IO (io), 14 IO (io), 15 IO (io), 16 IO (io), 17 IO (io), 18 IO (io), 19 IO (io), 20 IO (io), 21 IO (io), 22 IO (io), 23 IO (io), 24 IO (io), 25 IO (io), 26 IO (io), 27 IO (io), 32 IO (io), 33 IO (io), 34 ~{TRST} (in), 35 IO (io), 36 IO (io), 37 IO (io), 38 IO (io), 39 IO (io), 40 IO (io), 41 IO (io), 42 IO (io), 43 IO (io), 44 IO (io), 45 IO (io), 47 IO (io), 48 IO (io), 49 IO (io), 50 IO (io), 51 IO (io), 52 IO (io), 53 IO (io), 54 IO (io), 55 IO (io), 56 IO (io), 57 IO (io), 58 IO (io), 60 IO (io), 61 IO (io), 62 IO (io), 63 IO (io), 64 IO (io), 65 IO (io), 66 IO (io), 67 IO (io), 68 IO (io), 69 IO (io), 70 IO (io), 71 IO (io), 72 IO (io), 73 IO (io), 74 IO (io), 75 IO (io), 76 IO (io), 77 IO (io), 78 IO (io), 79 IO (io), 80 IO (io), 81 IO (io), 82 IO (io), 83 IO (io), 84 IO (io), 85 IO (io), 86 IO (io), 87 IO (io), 88 IO (io), 89 IO (io), 90 PRB/IO (io), 95 IO (io), 96 HCLK (in), 97 IO (io), 98 IO (io), 99 IO (io), 100 IO (io), 101 IO (io), 102 IO (io), 103 IO (io), 104 IO (io), 105 IO (io), 106 IO (io), 107 IO (io), 108 IO (io), 109 IO (io), 111 IO (io), 112 IO (io), 113 IO (io), 114 IO (io), 115 IO (io), 116 IO (io), 117 IO (io), 118 IO (io), 119 IO (io), 120 IO (io), 121 IO (io), 122 IO (io), 123 IO (io), 124 IO (io), 125 IO (io), 126 TDO/IO (io), 127 IO (io), 129 IO (io), 130 IO (io), 131 IO (io), 132 IO (io), 133 IO (io), 134 IO (io), 135 IO (io), 136 IO (io), 137 IO (io), 138 IO (io), 139 IO (io), 140 IO (io), 142 IO (io), 143 IO (io), 144 IO (io), 145 IO (io), 146 IO (io), 147 IO (io), 148 IO (io), 149 IO (io), 150 IO (io), 151 IO (io), 152 IO (io), 153 IO (io), 154 IO (io), 155 IO (io), 156 IO (io), 157 IO (io), 162 IO (io), 163 IO (io), 164 IO (io), 165 IO (io), 166 IO (io), 167 IO (io), 168 IO (io), 169 IO (io), 170 IO (io), 171 IO (io), 172 IO (io), 173 IO (io), 177 IO (io), 178 IO (io), 179 IO (io), 180 IO (io), 181 IO (io), 182 IO (io), 183 IO (io), 184 IO (io), 185 IO (io), 186 IO (io), 187 IO (io), 188 IO (io), 190 IO (io), 191 IO (io), 192 IO (io), 193 IO (io), 194 IO (io), 195 IO (io), 196 IO (io), 197 IO (io), 198 IO (io), 199 IO (io), 200 IO (io), 201 IO (io), 202 IO (io), 203 IO (io), 204 IO (io), 205 IO (io), 206 IO (io), 207 IO (io), 208 IO (io), 209 IO (io), 210 IO (io), 211 IO (io), 212 IO (io), 213 IO (io), 214 IO (io), 215 IO (io), 216 IO (io), 217 IO (io), 218 IO (io), 219 CLKA (in), 220 CLKB (in), 225 PRA/IO (io), 226 IO (io), 227 IO (io), 228 IO (io), 229 IO (io), 230 IO (io), 231 IO (io), 232 IO (io), 233 IO (io), 234 IO (io), 235 IO (io), 236 IO (io), 237 IO (io), 238 IO (io), 239 IO (io), 241 IO (io), 242 IO (io), 243 IO (io), 244 IO (io), 245 IO (io), 246 IO (io), 247 IO (io), 248 IO (io), 249 IO (io), 250 IO (io), 251 IO (io), 252 IO (io), 253 IO (io), 254 IO (io), 255 IO (io), 256 TCK/IO (io)
part B pins: 1 GND (power), 28 VCCI (power), 29 GND (power), 30 VCCA (power), 31 GND (power), 46 VCCA (power), 59 GND (power), 91 GND (power), 92 VCCI (power), 93 GND (power), 94 VCCA (power), 110 GND (power), 128 GND (power), 141 VCCA (power), 158 GND (power), 159 NC, 160 GND (power), 161 VCCI (power), 174 VCCA (power), 175 GND (power), 176 GND (power), 189 GND (power), 221 VCCI (power), 222 GND (power), 223 NC, 224 GND (power), 240 GND (power)

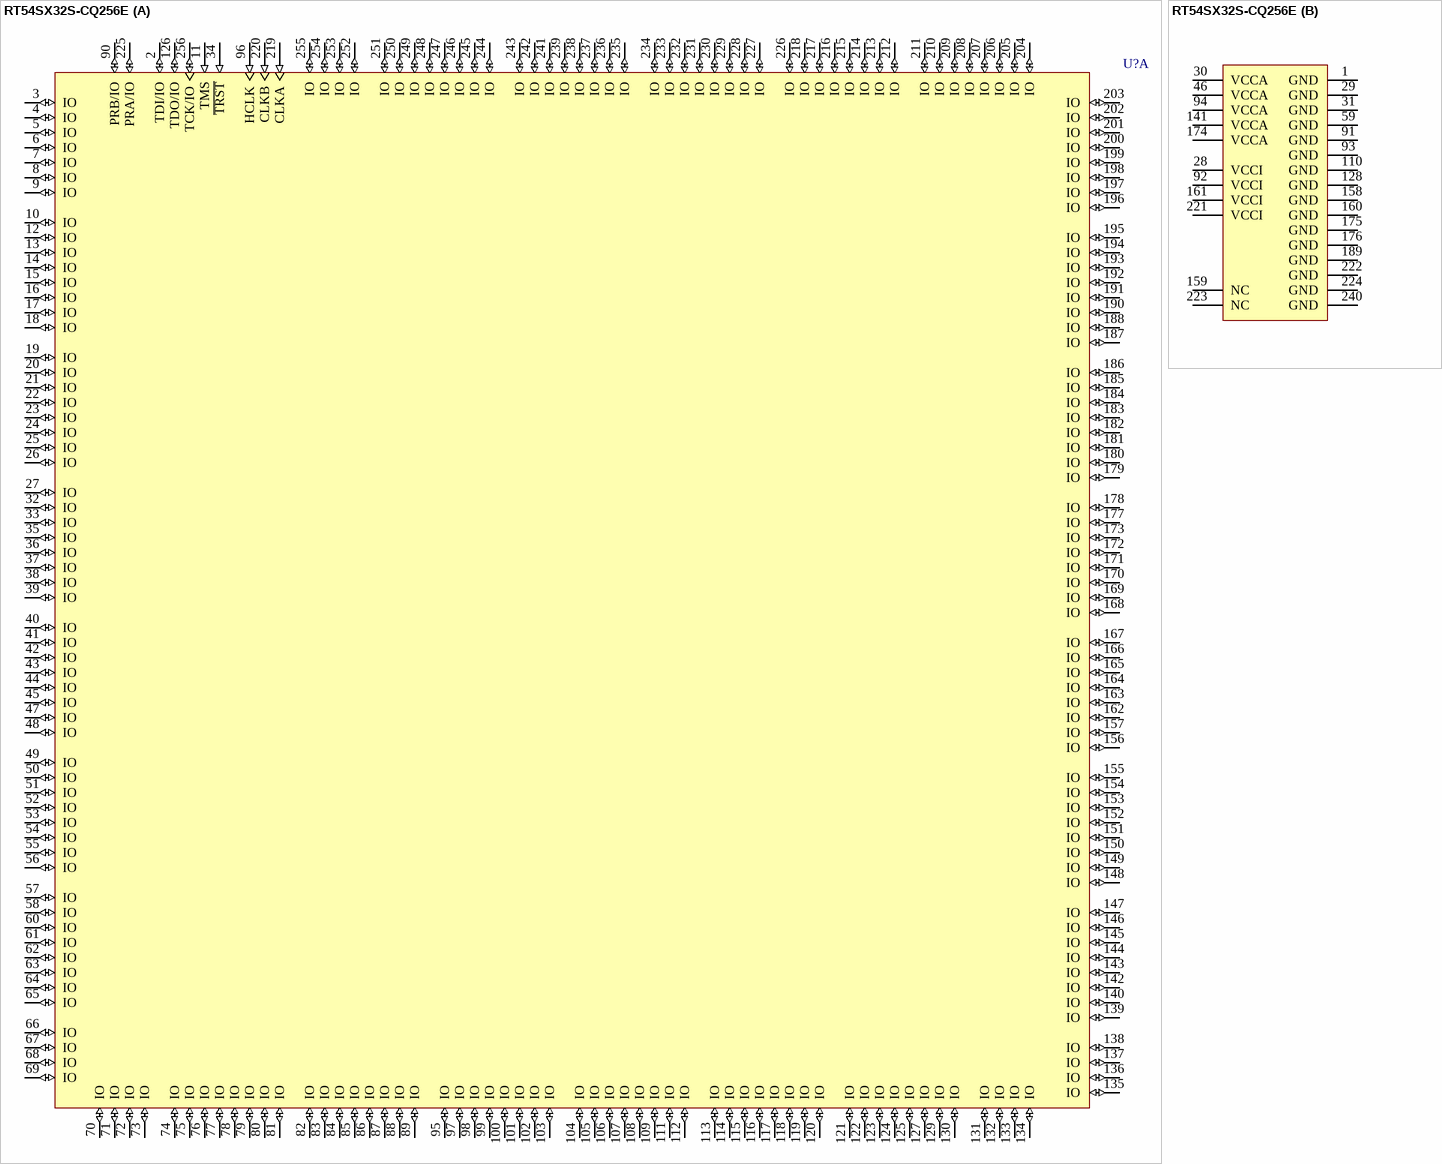
[diagram p9: symbol RT54SX32S-CQ256E]

## RT54SX32S-CQ256E
designator U?
RT54SX32S RadTolerant FPGA, 227 User IOs, 256-Pin CQFP, Speed Grade Standard, E-Flow (Space Level Flow); Component Availability: Discontinued; Published: 17-Sep-2003; LatestRevisionDate: 13-Apr-2006; LatestRevisionNote: IPC-7351 Footprint Added.; DatasheetVersion: v2.2, Nov-2004; PackageVersion: ver11.2, Nov-2009; PackageReference: CQ256; Publisher: Altium Limited; PackageDescription: 256-Pin Ceramic Quad Flat Pack (CQFP); Code_JEDEC: MO-134-AB; ComponentLink1Description: RTSX-S RadTolerant Datasheet; ComponentLink1URL: http://www.actel.com/documents/RT54SXS_DS.pdf; ComponentLink2Description: Package Mechanical Drawings; ComponentLink2URL: http://www.actel.com/documents/PckgMechDrwngs.pdf; ComponentLink3Description: RTSX-S Discontinued Documents; ComponentLink3URL: http://www.actel.com/products/discontinued/default.aspx#rtsxs; ComponentLink4Description: Actel.com Home; ComponentLink4URL: http://www.actel.com/
footprint CQ256_N (CQFP, 256-Leads, Body 36x36mm; Pitch 0.5mm, Gullwing Leadform, IPC Medium Density)
footprint CQ256_L (CQFP, 256-Leads, Body 36x36mm; Pitch 0.5mm, Gullwing Leadform, IPC High Density)
footprint CQ256_M (CQFP, 256-Leads, Body 36x36mm; Pitch 0.5mm, Gullwing Leadform, IPC Low Density)
part A pins: 2 TDI/IO (io), 3 IO (io), 4 IO (io), 5 IO (io), 6 IO (io), 7 IO (io), 8 IO (io), 9 IO (io), 10 IO (io), 11 TMS (in), 12 IO (io), 13 IO (io), 14 IO (io), 15 IO (io), 16 IO (io), 17 IO (io), 18 IO (io), 19 IO (io), 20 IO (io), 21 IO (io), 22 IO (io), 23 IO (io), 24 IO (io), 25 IO (io), 26 IO (io), 27 IO (io), 32 IO (io), 33 IO (io), 34 ~{TRST} (in), 35 IO (io), 36 IO (io), 37 IO (io), 38 IO (io), 39 IO (io), 40 IO (io), 41 IO (io), 42 IO (io), 43 IO (io), 44 IO (io), 45 IO (io), 47 IO (io), 48 IO (io), 49 IO (io), 50 IO (io), 51 IO (io), 52 IO (io), 53 IO (io), 54 IO (io), 55 IO (io), 56 IO (io), 57 IO (io), 58 IO (io), 60 IO (io), 61 IO (io), 62 IO (io), 63 IO (io), 64 IO (io), 65 IO (io), 66 IO (io), 67 IO (io), 68 IO (io), 69 IO (io), 70 IO (io), 71 IO (io), 72 IO (io), 73 IO (io), 74 IO (io), 75 IO (io), 76 IO (io), 77 IO (io), 78 IO (io), 79 IO (io), 80 IO (io), 81 IO (io), 82 IO (io), 83 IO (io), 84 IO (io), 85 IO (io), 86 IO (io), 87 IO (io), 88 IO (io), 89 IO (io), 90 PRB/IO (io), 95 IO (io), 96 HCLK (in), 97 IO (io), 98 IO (io), 99 IO (io), 100 IO (io), 101 IO (io), 102 IO (io), 103 IO (io), 104 IO (io), 105 IO (io), 106 IO (io), 107 IO (io), 108 IO (io), 109 IO (io), 111 IO (io), 112 IO (io), 113 IO (io), 114 IO (io), 115 IO (io), 116 IO (io), 117 IO (io), 118 IO (io), 119 IO (io), 120 IO (io), 121 IO (io), 122 IO (io), 123 IO (io), 124 IO (io), 125 IO (io), 126 TDO/IO (io), 127 IO (io), 129 IO (io), 130 IO (io), 131 IO (io), 132 IO (io), 133 IO (io), 134 IO (io), 135 IO (io), 136 IO (io), 137 IO (io), 138 IO (io), 139 IO (io), 140 IO (io), 142 IO (io), 143 IO (io), 144 IO (io), 145 IO (io), 146 IO (io), 147 IO (io), 148 IO (io), 149 IO (io), 150 IO (io), 151 IO (io), 152 IO (io), 153 IO (io), 154 IO (io), 155 IO (io), 156 IO (io), 157 IO (io), 162 IO (io), 163 IO (io), 164 IO (io), 165 IO (io), 166 IO (io), 167 IO (io), 168 IO (io), 169 IO (io), 170 IO (io), 171 IO (io), 172 IO (io), 173 IO (io), 177 IO (io), 178 IO (io), 179 IO (io), 180 IO (io), 181 IO (io), 182 IO (io), 183 IO (io), 184 IO (io), 185 IO (io), 186 IO (io), 187 IO (io), 188 IO (io), 190 IO (io), 191 IO (io), 192 IO (io), 193 IO (io), 194 IO (io), 195 IO (io), 196 IO (io), 197 IO (io), 198 IO (io), 199 IO (io), 200 IO (io), 201 IO (io), 202 IO (io), 203 IO (io), 204 IO (io), 205 IO (io), 206 IO (io), 207 IO (io), 208 IO (io), 209 IO (io), 210 IO (io), 211 IO (io), 212 IO (io), 213 IO (io), 214 IO (io), 215 IO (io), 216 IO (io), 217 IO (io), 218 IO (io), 219 CLKA (in), 220 CLKB (in), 225 PRA/IO (io), 226 IO (io), 227 IO (io), 228 IO (io), 229 IO (io), 230 IO (io), 231 IO (io), 232 IO (io), 233 IO (io), 234 IO (io), 235 IO (io), 236 IO (io), 237 IO (io), 238 IO (io), 239 IO (io), 241 IO (io), 242 IO (io), 243 IO (io), 244 IO (io), 245 IO (io), 246 IO (io), 247 IO (io), 248 IO (io), 249 IO (io), 250 IO (io), 251 IO (io), 252 IO (io), 253 IO (io), 254 IO (io), 255 IO (io), 256 TCK/IO (io)
part B pins: 1 GND (power), 28 VCCI (power), 29 GND (power), 30 VCCA (power), 31 GND (power), 46 VCCA (power), 59 GND (power), 91 GND (power), 92 VCCI (power), 93 GND (power), 94 VCCA (power), 110 GND (power), 128 GND (power), 141 VCCA (power), 158 GND (power), 159 NC, 160 GND (power), 161 VCCI (power), 174 VCCA (power), 175 GND (power), 176 GND (power), 189 GND (power), 221 VCCI (power), 222 GND (power), 223 NC, 224 GND (power), 240 GND (power)

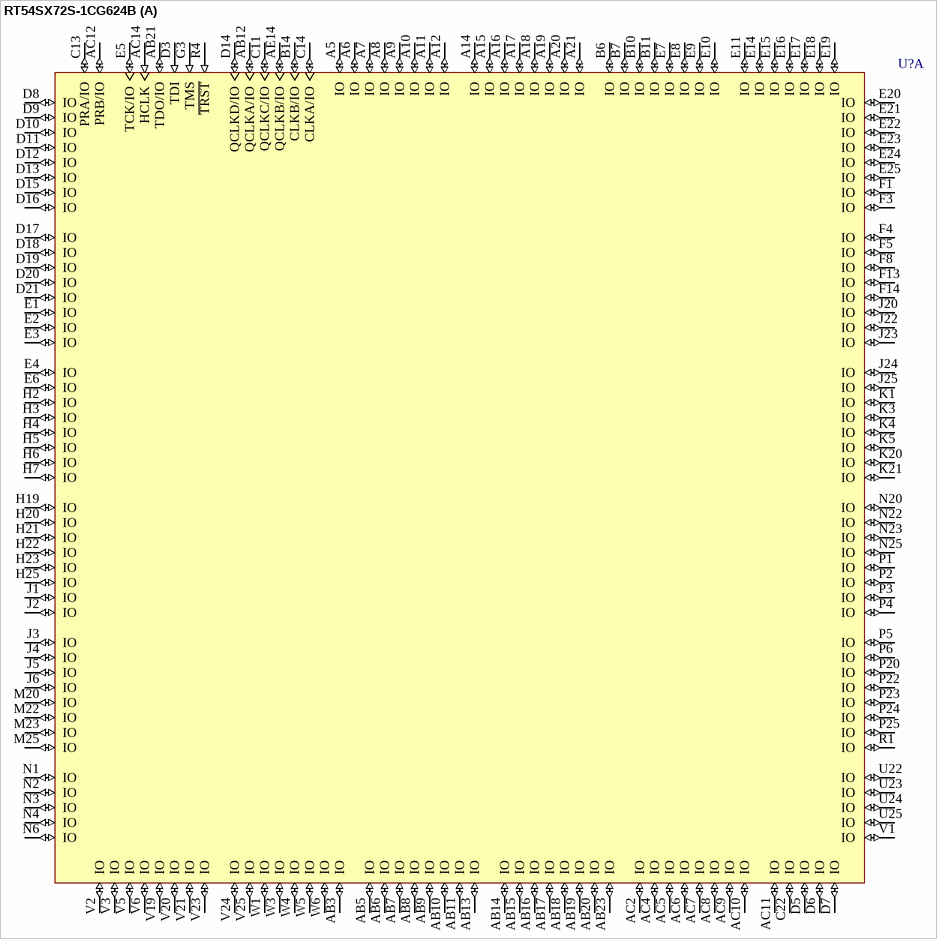
[diagram p10: symbol RT54SX72S-1CG624B]

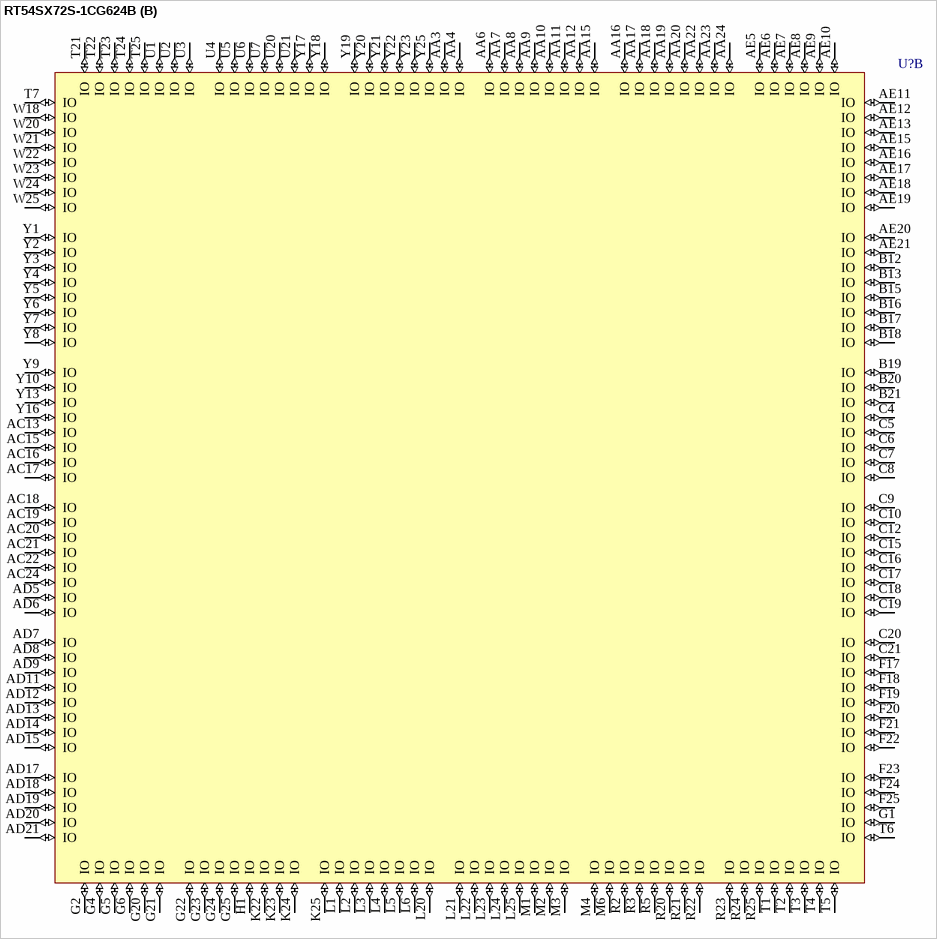
[diagram p11: symbol RT54SX72S-1CG624B]

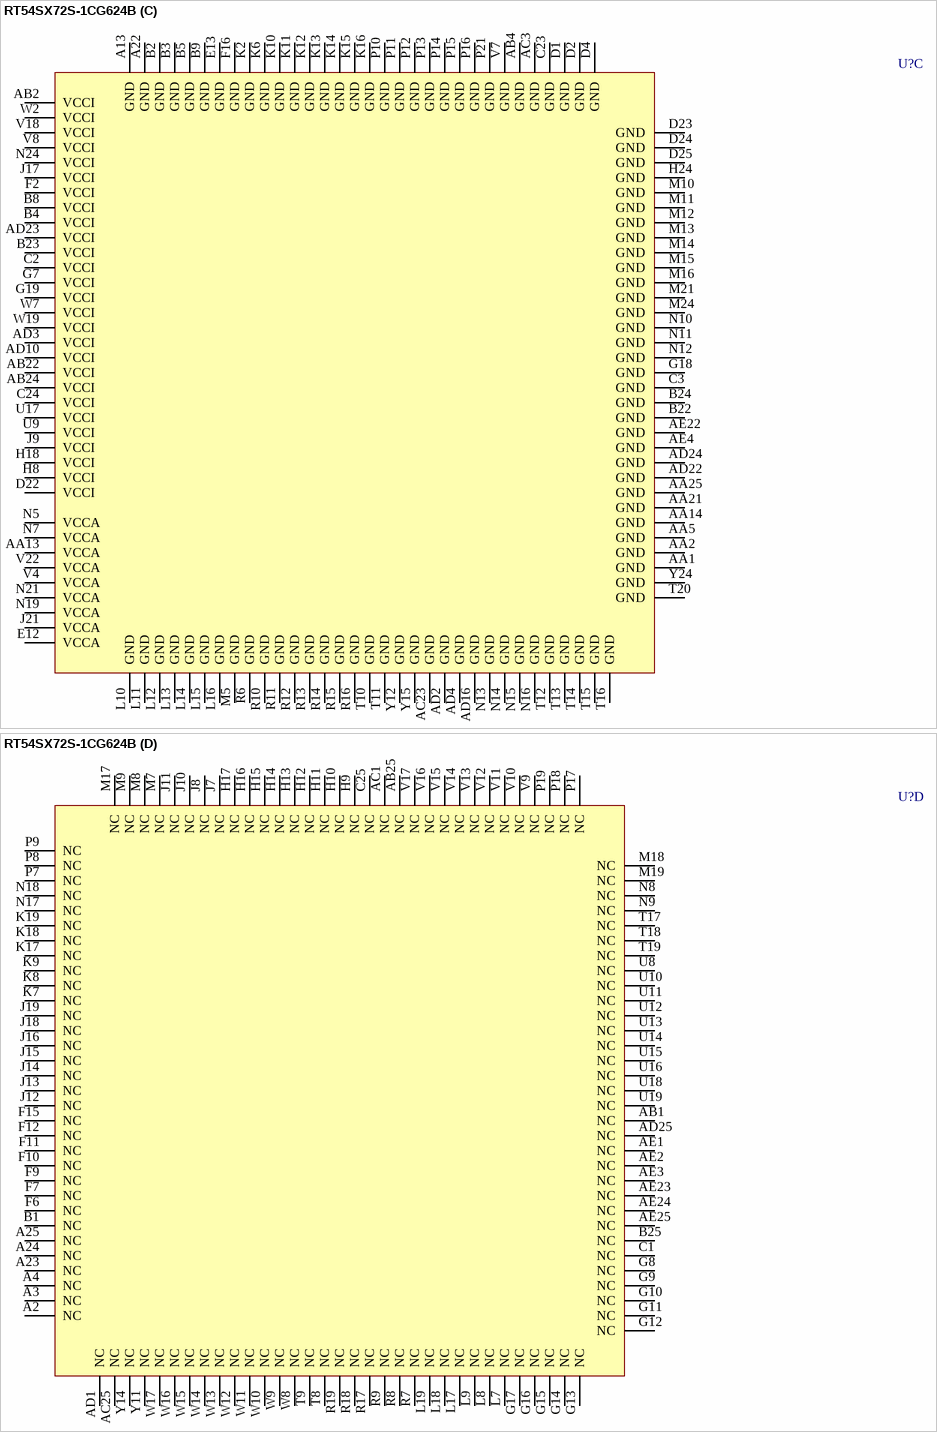
[diagram p12: symbol RT54SX72S-1CG624B]